# Altium integrated library Actel IGLOO.IntLib: 429 symbols (part 21 of 45)
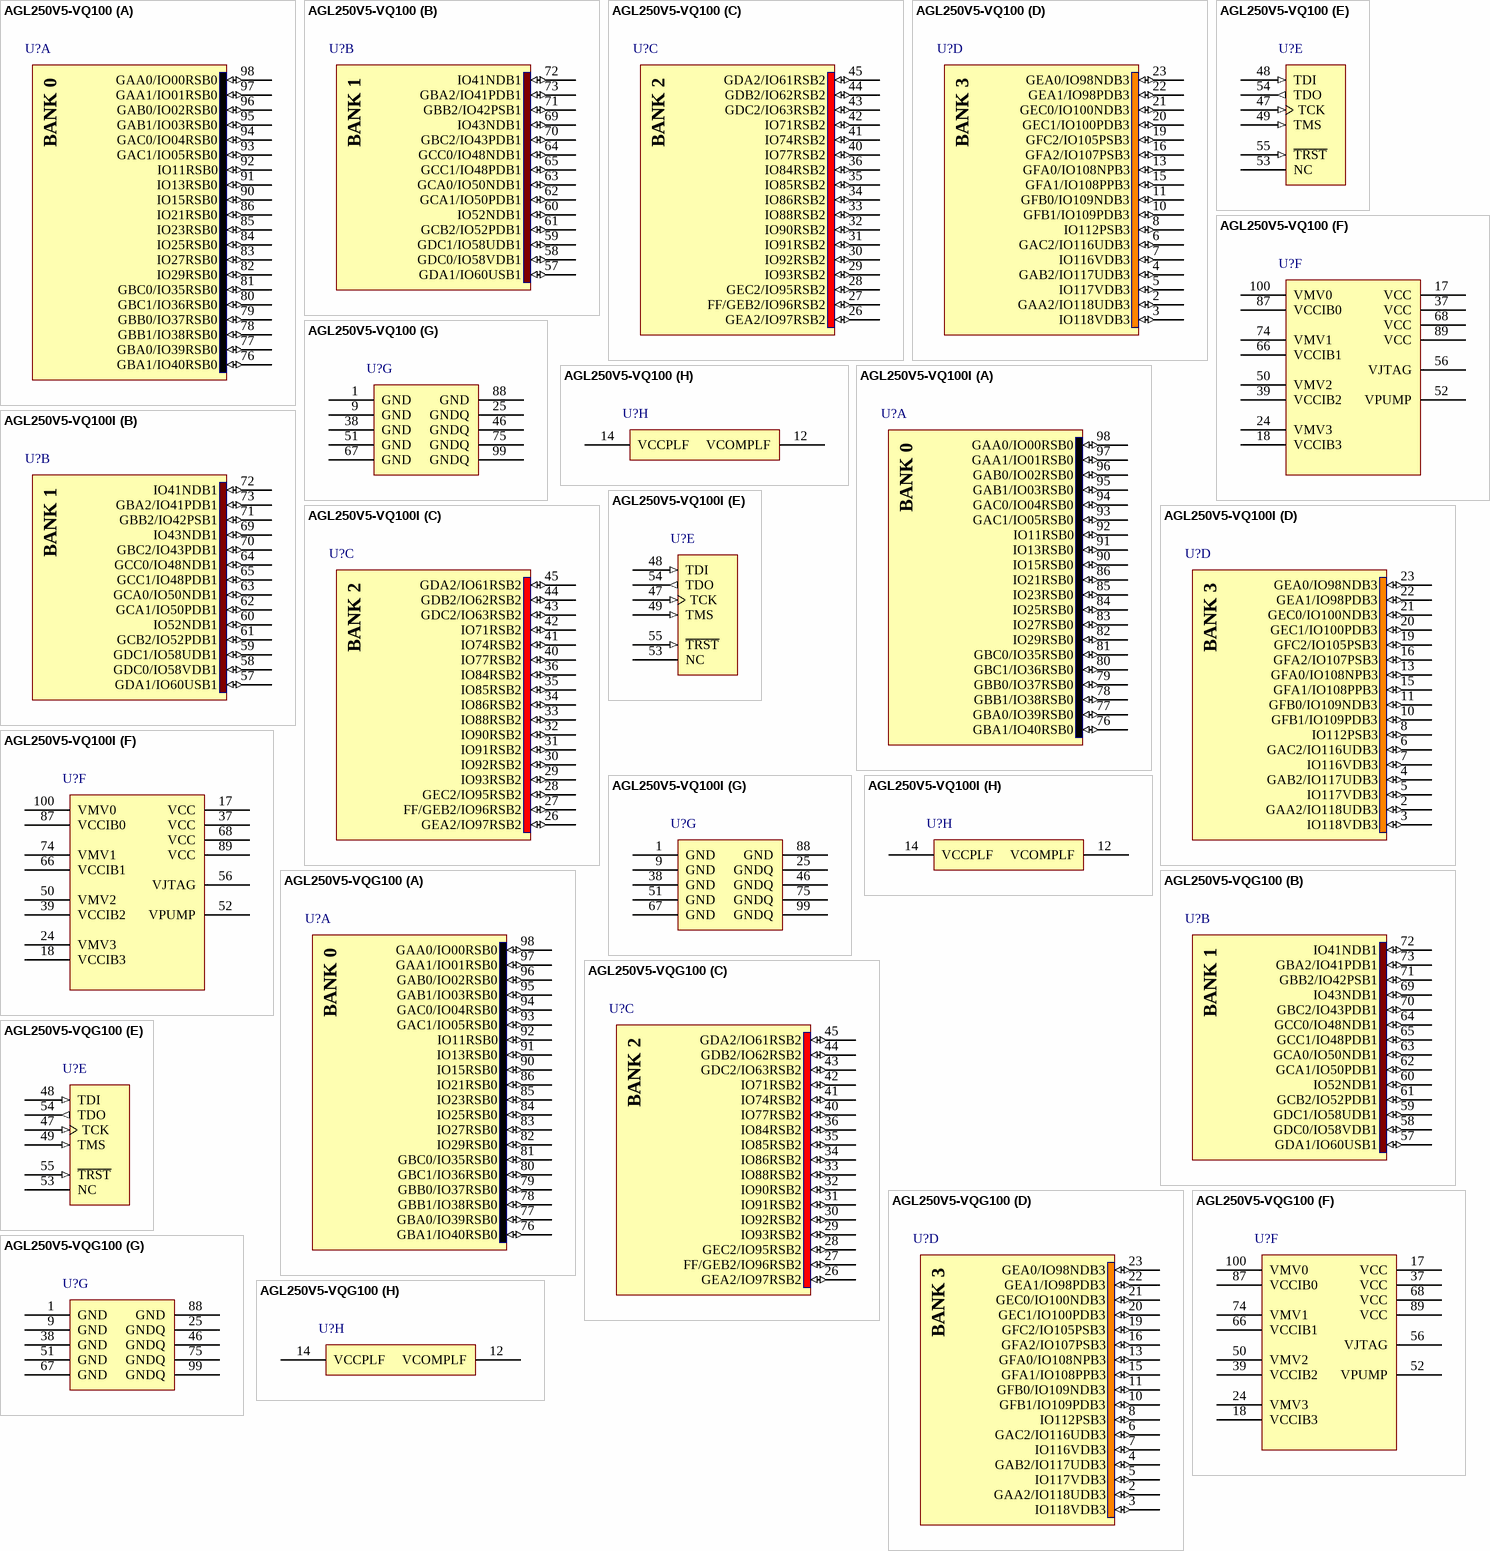
[diagram p267: symbols AGL250V5-VQ100 to AGL250V5-VQG100]

## AGL250V5-VQ100
designator U?
IGLOO Low-Power Flash 1.5V FPGA with Flash*Freeze, 68 User IOs, 250K System Gates, 36Kbits RAM, 1Kbit Flash ROM, 1 PLL, 100-Pin TQFP, Commercial Grade; DatasheetVersion: v2.0, Nov-2009; PackageVersion: rev40, Jun-2011; PackageReference: VQ100; PackageDescription: 100-Pin Plastic Quad Flat Pack (VQ100); Code_JEDEC: MS-026-AED; ComponentLink1Description: Manufacturer URL; ComponentLink1URL: http://www.actel.com/; ComponentLink2Description: IGLOO Datasheet; ComponentLink2URL: http://www.actel.com/documents/IGLOO_DS.pdf; ComponentLink3Description: Package Mechanical Drawings; ComponentLink3URL: http://www.actel.com/documents/PckgMechDrwngs.pdf; ComponentLink4Description: IGLOO Documents; ComponentLink4URL: http://www.actel.com/products/igloo/docs.aspx
footprint VQ100_N (Thin QFP, 100-Leads, Body 14x14mm, Pitch 0.5mm, IPC Medium Density)
footprint VQ100_L (Thin QFP, 100-Leads, Body 14x14mm, Pitch 0.5mm, IPC High Density)
footprint VQ100_M (Thin QFP, 100-Leads, Body 14x14mm, Pitch 0.5mm, IPC Low Density)
part A pins: 76 GBA1/IO40RSB0 (io), 77 GBA0/IO39RSB0 (io), 78 GBB1/IO38RSB0 (io), 79 GBB0/IO37RSB0 (io), 80 GBC1/IO36RSB0 (io), 81 GBC0/IO35RSB0 (io), 82 IO29RSB0 (io), 83 IO27RSB0 (io), 84 IO25RSB0 (io), 85 IO23RSB0 (io), 86 IO21RSB0 (io), 90 IO15RSB0 (io), 91 IO13RSB0 (io), 92 IO11RSB0 (io), 93 GAC1/IO05RSB0 (io), 94 GAC0/IO04RSB0 (io), 95 GAB1/IO03RSB0 (io), 96 GAB0/IO02RSB0 (io), 97 GAA1/IO01RSB0 (io), 98 GAA0/IO00RSB0 (io)
part B pins: 57 GDA1/IO60USB1 (io), 58 GDC0/IO58VDB1 (io), 59 GDC1/IO58UDB1 (io), 60 IO52NDB1 (io), 61 GCB2/IO52PDB1 (io), 62 GCA1/IO50PDB1 (io), 63 GCA0/IO50NDB1 (io), 64 GCC0/IO48NDB1 (io), 65 GCC1/IO48PDB1 (io), 69 IO43NDB1 (io), 70 GBC2/IO43PDB1 (io), 71 GBB2/IO42PSB1 (io), 72 IO41NDB1 (io), 73 GBA2/IO41PDB1 (io)
part C pins: 26 GEA2/IO97RSB2 (io), 27 FF/GEB2/IO96RSB2 (io), 28 GEC2/IO95RSB2 (io), 29 IO93RSB2 (io), 30 IO92RSB2 (io), 31 IO91RSB2 (io), 32 IO90RSB2 (io), 33 IO88RSB2 (io), 34 IO86RSB2 (io), 35 IO85RSB2 (io), 36 IO84RSB2 (io), 40 IO77RSB2 (io), 41 IO74RSB2 (io), 42 IO71RSB2 (io), 43 GDC2/IO63RSB2 (io), 44 GDB2/IO62RSB2 (io), 45 GDA2/IO61RSB2 (io)
part D pins: 2 GAA2/IO118UDB3 (io), 3 IO118VDB3 (io), 4 GAB2/IO117UDB3 (io), 5 IO117VDB3 (io), 6 GAC2/IO116UDB3 (io), 7 IO116VDB3 (io), 8 IO112PSB3 (io), 10 GFB1/IO109PDB3 (io), 11 GFB0/IO109NDB3 (io), 13 GFA0/IO108NPB3 (io), 15 GFA1/IO108PPB3 (io), 16 GFA2/IO107PSB3 (io), 19 GFC2/IO105PSB3 (io), 20 GEC1/IO100PDB3 (io), 21 GEC0/IO100NDB3 (io), 22 GEA1/IO98PDB3 (io), 23 GEA0/IO98NDB3 (io)
part E pins: 47 TCK (in), 48 TDI (in), 49 TMS (in), 53 NC, 54 TDO (out), 55 ~{TRST} (in)
part F pins: 17 VCC (power), 18 VCCIB3 (power), 24 VMV3 (power), 37 VCC (power), 39 VCCIB2 (power), 50 VMV2 (power), 52 VPUMP (power), 56 VJTAG (power), 66 VCCIB1 (power), 68 VCC (power), 74 VMV1 (power), 87 VCCIB0 (power), 89 VCC (power), 100 VMV0 (power)
part G pins: 1 GND (power), 9 GND (power), 25 GNDQ (power), 38 GND (power), 46 GNDQ (power), 51 GND (power), 67 GND (power), 75 GNDQ (power), 88 GND (power), 99 GNDQ (power)
part H pins: 12 VCOMPLF (power), 14 VCCPLF (power)
part A text: BANK 0
part B text: BANK 1
part C text: BANK 2
part D text: BANK 3

## AGL250V5-VQ100I
designator U?
IGLOO Low-Power Flash 1.5V FPGA with Flash*Freeze, 68 User IOs, 250K System Gates, 36Kbits RAM, 1Kbit Flash ROM, 1 PLL, 100-Pin TQFP, Industrial Grade; DatasheetVersion: v2.0, Nov-2009; PackageVersion: rev40, Jun-2011; PackageReference: VQ100; PackageDescription: 100-Pin Plastic Quad Flat Pack (VQ100); Code_JEDEC: MS-026-AED; ComponentLink1Description: Manufacturer URL; ComponentLink1URL: http://www.actel.com/; ComponentLink2Description: IGLOO Datasheet; ComponentLink2URL: http://www.actel.com/documents/IGLOO_DS.pdf; ComponentLink3Description: Package Mechanical Drawings; ComponentLink3URL: http://www.actel.com/documents/PckgMechDrwngs.pdf; ComponentLink4Description: IGLOO Documents; ComponentLink4URL: http://www.actel.com/products/igloo/docs.aspx
footprint VQ100_N (Thin QFP, 100-Leads, Body 14x14mm, Pitch 0.5mm, IPC Medium Density)
footprint VQ100_L (Thin QFP, 100-Leads, Body 14x14mm, Pitch 0.5mm, IPC High Density)
footprint VQ100_M (Thin QFP, 100-Leads, Body 14x14mm, Pitch 0.5mm, IPC Low Density)
part A pins: 76 GBA1/IO40RSB0 (io), 77 GBA0/IO39RSB0 (io), 78 GBB1/IO38RSB0 (io), 79 GBB0/IO37RSB0 (io), 80 GBC1/IO36RSB0 (io), 81 GBC0/IO35RSB0 (io), 82 IO29RSB0 (io), 83 IO27RSB0 (io), 84 IO25RSB0 (io), 85 IO23RSB0 (io), 86 IO21RSB0 (io), 90 IO15RSB0 (io), 91 IO13RSB0 (io), 92 IO11RSB0 (io), 93 GAC1/IO05RSB0 (io), 94 GAC0/IO04RSB0 (io), 95 GAB1/IO03RSB0 (io), 96 GAB0/IO02RSB0 (io), 97 GAA1/IO01RSB0 (io), 98 GAA0/IO00RSB0 (io)
part B pins: 57 GDA1/IO60USB1 (io), 58 GDC0/IO58VDB1 (io), 59 GDC1/IO58UDB1 (io), 60 IO52NDB1 (io), 61 GCB2/IO52PDB1 (io), 62 GCA1/IO50PDB1 (io), 63 GCA0/IO50NDB1 (io), 64 GCC0/IO48NDB1 (io), 65 GCC1/IO48PDB1 (io), 69 IO43NDB1 (io), 70 GBC2/IO43PDB1 (io), 71 GBB2/IO42PSB1 (io), 72 IO41NDB1 (io), 73 GBA2/IO41PDB1 (io)
part C pins: 26 GEA2/IO97RSB2 (io), 27 FF/GEB2/IO96RSB2 (io), 28 GEC2/IO95RSB2 (io), 29 IO93RSB2 (io), 30 IO92RSB2 (io), 31 IO91RSB2 (io), 32 IO90RSB2 (io), 33 IO88RSB2 (io), 34 IO86RSB2 (io), 35 IO85RSB2 (io), 36 IO84RSB2 (io), 40 IO77RSB2 (io), 41 IO74RSB2 (io), 42 IO71RSB2 (io), 43 GDC2/IO63RSB2 (io), 44 GDB2/IO62RSB2 (io), 45 GDA2/IO61RSB2 (io)
part D pins: 2 GAA2/IO118UDB3 (io), 3 IO118VDB3 (io), 4 GAB2/IO117UDB3 (io), 5 IO117VDB3 (io), 6 GAC2/IO116UDB3 (io), 7 IO116VDB3 (io), 8 IO112PSB3 (io), 10 GFB1/IO109PDB3 (io), 11 GFB0/IO109NDB3 (io), 13 GFA0/IO108NPB3 (io), 15 GFA1/IO108PPB3 (io), 16 GFA2/IO107PSB3 (io), 19 GFC2/IO105PSB3 (io), 20 GEC1/IO100PDB3 (io), 21 GEC0/IO100NDB3 (io), 22 GEA1/IO98PDB3 (io), 23 GEA0/IO98NDB3 (io)
part E pins: 47 TCK (in), 48 TDI (in), 49 TMS (in), 53 NC, 54 TDO (out), 55 ~{TRST} (in)
part F pins: 17 VCC (power), 18 VCCIB3 (power), 24 VMV3 (power), 37 VCC (power), 39 VCCIB2 (power), 50 VMV2 (power), 52 VPUMP (power), 56 VJTAG (power), 66 VCCIB1 (power), 68 VCC (power), 74 VMV1 (power), 87 VCCIB0 (power), 89 VCC (power), 100 VMV0 (power)
part G pins: 1 GND (power), 9 GND (power), 25 GNDQ (power), 38 GND (power), 46 GNDQ (power), 51 GND (power), 67 GND (power), 75 GNDQ (power), 88 GND (power), 99 GNDQ (power)
part H pins: 12 VCOMPLF (power), 14 VCCPLF (power)
part A text: BANK 0
part B text: BANK 1
part C text: BANK 2
part D text: BANK 3

## AGL250V5-VQG100
designator U?
IGLOO Low-Power Flash 1.5V FPGA with Flash*Freeze, 68 User IOs, 250K System Gates, 36Kbits RAM, 1Kbit Flash ROM, 1 PLL, 100-Pin TQFP, Commercial Grade, Pb-Free; DatasheetVersion: v2.0, Nov-2009; PackageVersion: rev40, Jun-2011; PackageReference: VQ100; PackageDescription: 100-Pin Plastic Quad Flat Pack (VQ100); Code_JEDEC: MS-026-AED; ComponentLink1Description: Manufacturer URL; ComponentLink1URL: http://www.actel.com/; ComponentLink2Description: IGLOO Datasheet; ComponentLink2URL: http://www.actel.com/documents/IGLOO_DS.pdf; ComponentLink3Description: Package Mechanical Drawings; ComponentLink3URL: http://www.actel.com/documents/PckgMechDrwngs.pdf; ComponentLink4Description: IGLOO Documents; ComponentLink4URL: http://www.actel.com/products/igloo/docs.aspx
footprint VQ100_N (Thin QFP, 100-Leads, Body 14x14mm, Pitch 0.5mm, IPC Medium Density)
footprint VQ100_L (Thin QFP, 100-Leads, Body 14x14mm, Pitch 0.5mm, IPC High Density)
footprint VQ100_M (Thin QFP, 100-Leads, Body 14x14mm, Pitch 0.5mm, IPC Low Density)
part A pins: 76 GBA1/IO40RSB0 (io), 77 GBA0/IO39RSB0 (io), 78 GBB1/IO38RSB0 (io), 79 GBB0/IO37RSB0 (io), 80 GBC1/IO36RSB0 (io), 81 GBC0/IO35RSB0 (io), 82 IO29RSB0 (io), 83 IO27RSB0 (io), 84 IO25RSB0 (io), 85 IO23RSB0 (io), 86 IO21RSB0 (io), 90 IO15RSB0 (io), 91 IO13RSB0 (io), 92 IO11RSB0 (io), 93 GAC1/IO05RSB0 (io), 94 GAC0/IO04RSB0 (io), 95 GAB1/IO03RSB0 (io), 96 GAB0/IO02RSB0 (io), 97 GAA1/IO01RSB0 (io), 98 GAA0/IO00RSB0 (io)
part B pins: 57 GDA1/IO60USB1 (io), 58 GDC0/IO58VDB1 (io), 59 GDC1/IO58UDB1 (io), 60 IO52NDB1 (io), 61 GCB2/IO52PDB1 (io), 62 GCA1/IO50PDB1 (io), 63 GCA0/IO50NDB1 (io), 64 GCC0/IO48NDB1 (io), 65 GCC1/IO48PDB1 (io), 69 IO43NDB1 (io), 70 GBC2/IO43PDB1 (io), 71 GBB2/IO42PSB1 (io), 72 IO41NDB1 (io), 73 GBA2/IO41PDB1 (io)
part C pins: 26 GEA2/IO97RSB2 (io), 27 FF/GEB2/IO96RSB2 (io), 28 GEC2/IO95RSB2 (io), 29 IO93RSB2 (io), 30 IO92RSB2 (io), 31 IO91RSB2 (io), 32 IO90RSB2 (io), 33 IO88RSB2 (io), 34 IO86RSB2 (io), 35 IO85RSB2 (io), 36 IO84RSB2 (io), 40 IO77RSB2 (io), 41 IO74RSB2 (io), 42 IO71RSB2 (io), 43 GDC2/IO63RSB2 (io), 44 GDB2/IO62RSB2 (io), 45 GDA2/IO61RSB2 (io)
part D pins: 2 GAA2/IO118UDB3 (io), 3 IO118VDB3 (io), 4 GAB2/IO117UDB3 (io), 5 IO117VDB3 (io), 6 GAC2/IO116UDB3 (io), 7 IO116VDB3 (io), 8 IO112PSB3 (io), 10 GFB1/IO109PDB3 (io), 11 GFB0/IO109NDB3 (io), 13 GFA0/IO108NPB3 (io), 15 GFA1/IO108PPB3 (io), 16 GFA2/IO107PSB3 (io), 19 GFC2/IO105PSB3 (io), 20 GEC1/IO100PDB3 (io), 21 GEC0/IO100NDB3 (io), 22 GEA1/IO98PDB3 (io), 23 GEA0/IO98NDB3 (io)
part E pins: 47 TCK (in), 48 TDI (in), 49 TMS (in), 53 NC, 54 TDO (out), 55 ~{TRST} (in)
part F pins: 17 VCC (power), 18 VCCIB3 (power), 24 VMV3 (power), 37 VCC (power), 39 VCCIB2 (power), 50 VMV2 (power), 52 VPUMP (power), 56 VJTAG (power), 66 VCCIB1 (power), 68 VCC (power), 74 VMV1 (power), 87 VCCIB0 (power), 89 VCC (power), 100 VMV0 (power)
part G pins: 1 GND (power), 9 GND (power), 25 GNDQ (power), 38 GND (power), 46 GNDQ (power), 51 GND (power), 67 GND (power), 75 GNDQ (power), 88 GND (power), 99 GNDQ (power)
part H pins: 12 VCOMPLF (power), 14 VCCPLF (power)
part A text: BANK 0
part B text: BANK 1
part C text: BANK 2
part D text: BANK 3

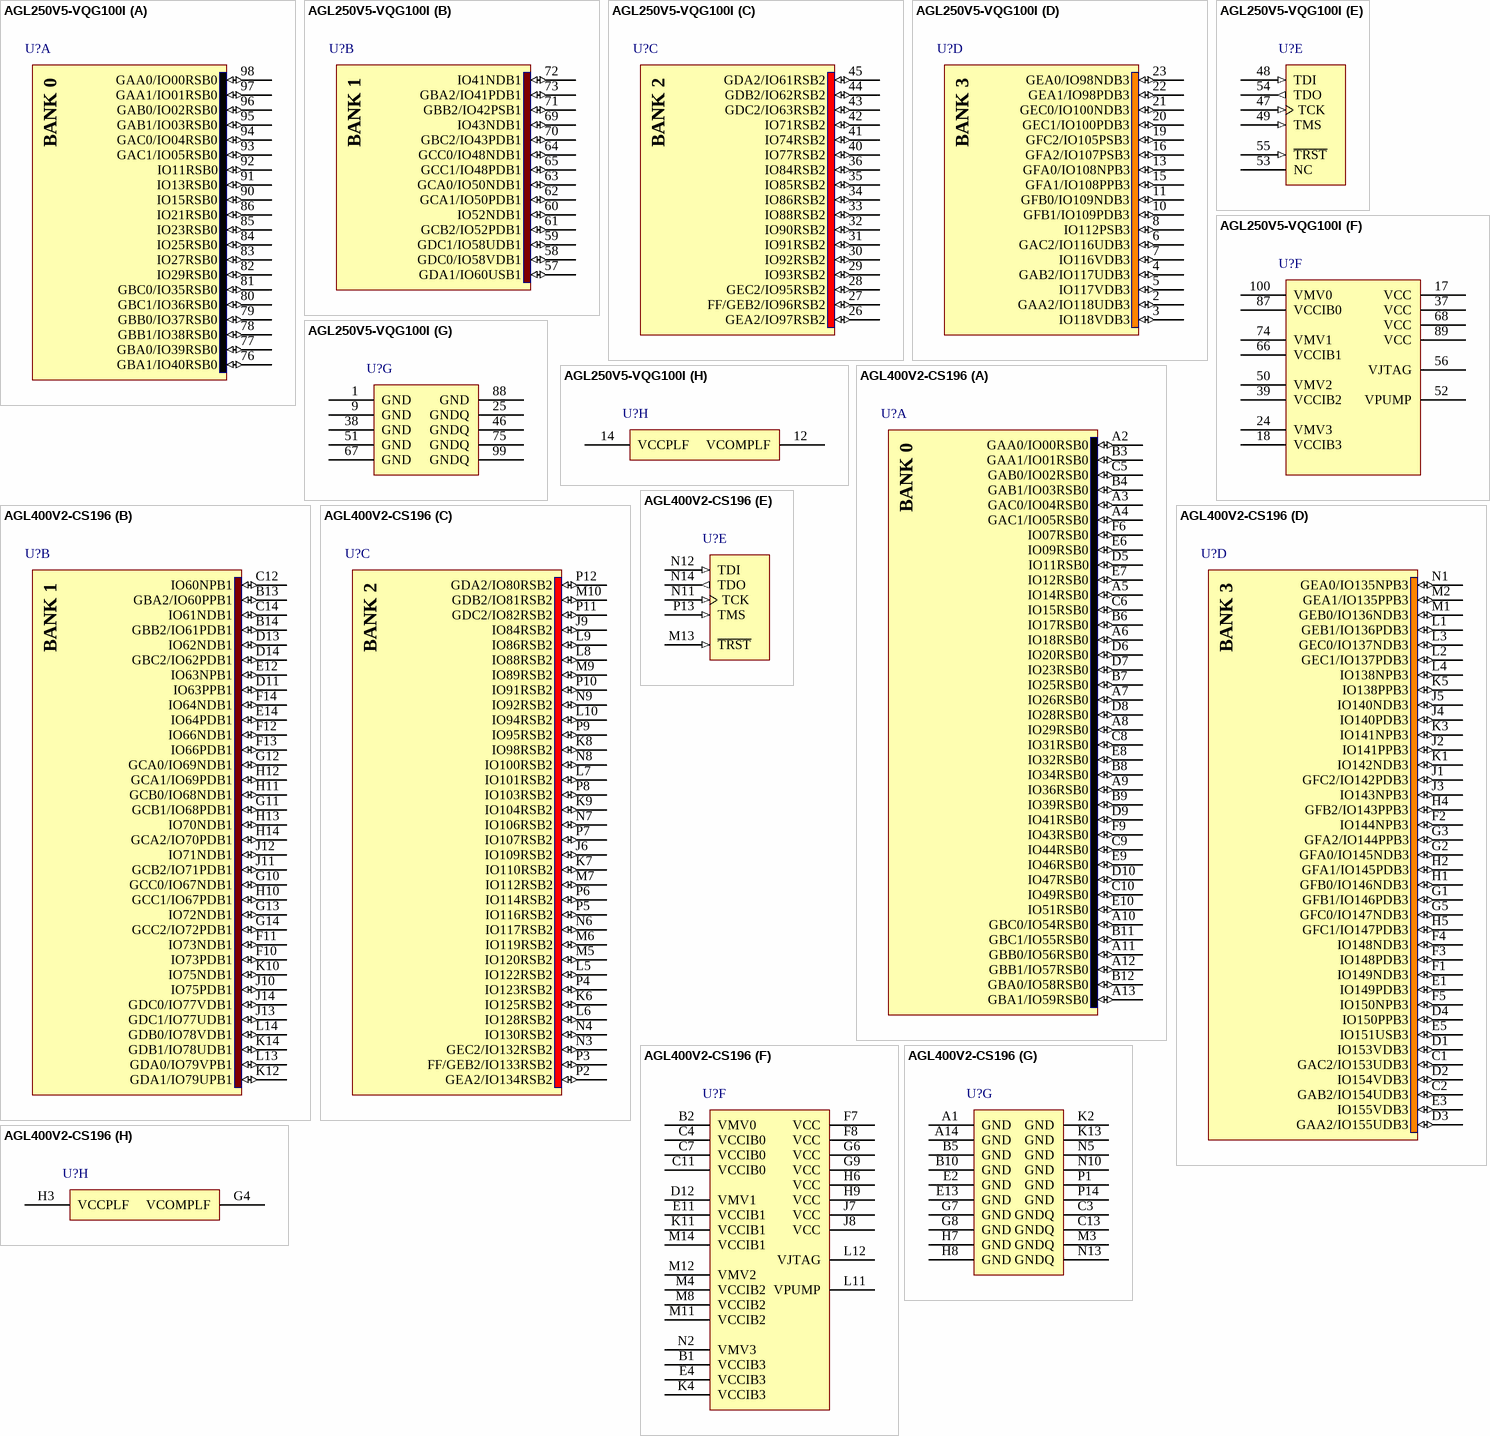
[diagram p64: symbols AGL250V5-VQG100I to AGL400V2-CS196]

## AGL250V5-VQG100I
designator U?
IGLOO Low-Power Flash 1.5V FPGA with Flash*Freeze, 68 User IOs, 250K System Gates, 36Kbits RAM, 1Kbit Flash ROM, 1 PLL, 100-Pin TQFP, Industrial Grade, Pb-Free; DatasheetVersion: v2.0, Nov-2009; PackageVersion: rev40, Jun-2011; PackageReference: VQ100; PackageDescription: 100-Pin Plastic Quad Flat Pack (VQ100); Code_JEDEC: MS-026-AED; ComponentLink1Description: Manufacturer URL; ComponentLink1URL: http://www.actel.com/; ComponentLink2Description: IGLOO Datasheet; ComponentLink2URL: http://www.actel.com/documents/IGLOO_DS.pdf; ComponentLink3Description: Package Mechanical Drawings; ComponentLink3URL: http://www.actel.com/documents/PckgMechDrwngs.pdf; ComponentLink4Description: IGLOO Documents; ComponentLink4URL: http://www.actel.com/products/igloo/docs.aspx
footprint VQ100_N (Thin QFP, 100-Leads, Body 14x14mm, Pitch 0.5mm, IPC Medium Density)
footprint VQ100_L (Thin QFP, 100-Leads, Body 14x14mm, Pitch 0.5mm, IPC High Density)
footprint VQ100_M (Thin QFP, 100-Leads, Body 14x14mm, Pitch 0.5mm, IPC Low Density)
part A pins: 76 GBA1/IO40RSB0 (io), 77 GBA0/IO39RSB0 (io), 78 GBB1/IO38RSB0 (io), 79 GBB0/IO37RSB0 (io), 80 GBC1/IO36RSB0 (io), 81 GBC0/IO35RSB0 (io), 82 IO29RSB0 (io), 83 IO27RSB0 (io), 84 IO25RSB0 (io), 85 IO23RSB0 (io), 86 IO21RSB0 (io), 90 IO15RSB0 (io), 91 IO13RSB0 (io), 92 IO11RSB0 (io), 93 GAC1/IO05RSB0 (io), 94 GAC0/IO04RSB0 (io), 95 GAB1/IO03RSB0 (io), 96 GAB0/IO02RSB0 (io), 97 GAA1/IO01RSB0 (io), 98 GAA0/IO00RSB0 (io)
part B pins: 57 GDA1/IO60USB1 (io), 58 GDC0/IO58VDB1 (io), 59 GDC1/IO58UDB1 (io), 60 IO52NDB1 (io), 61 GCB2/IO52PDB1 (io), 62 GCA1/IO50PDB1 (io), 63 GCA0/IO50NDB1 (io), 64 GCC0/IO48NDB1 (io), 65 GCC1/IO48PDB1 (io), 69 IO43NDB1 (io), 70 GBC2/IO43PDB1 (io), 71 GBB2/IO42PSB1 (io), 72 IO41NDB1 (io), 73 GBA2/IO41PDB1 (io)
part C pins: 26 GEA2/IO97RSB2 (io), 27 FF/GEB2/IO96RSB2 (io), 28 GEC2/IO95RSB2 (io), 29 IO93RSB2 (io), 30 IO92RSB2 (io), 31 IO91RSB2 (io), 32 IO90RSB2 (io), 33 IO88RSB2 (io), 34 IO86RSB2 (io), 35 IO85RSB2 (io), 36 IO84RSB2 (io), 40 IO77RSB2 (io), 41 IO74RSB2 (io), 42 IO71RSB2 (io), 43 GDC2/IO63RSB2 (io), 44 GDB2/IO62RSB2 (io), 45 GDA2/IO61RSB2 (io)
part D pins: 2 GAA2/IO118UDB3 (io), 3 IO118VDB3 (io), 4 GAB2/IO117UDB3 (io), 5 IO117VDB3 (io), 6 GAC2/IO116UDB3 (io), 7 IO116VDB3 (io), 8 IO112PSB3 (io), 10 GFB1/IO109PDB3 (io), 11 GFB0/IO109NDB3 (io), 13 GFA0/IO108NPB3 (io), 15 GFA1/IO108PPB3 (io), 16 GFA2/IO107PSB3 (io), 19 GFC2/IO105PSB3 (io), 20 GEC1/IO100PDB3 (io), 21 GEC0/IO100NDB3 (io), 22 GEA1/IO98PDB3 (io), 23 GEA0/IO98NDB3 (io)
part E pins: 47 TCK (in), 48 TDI (in), 49 TMS (in), 53 NC, 54 TDO (out), 55 ~{TRST} (in)
part F pins: 17 VCC (power), 18 VCCIB3 (power), 24 VMV3 (power), 37 VCC (power), 39 VCCIB2 (power), 50 VMV2 (power), 52 VPUMP (power), 56 VJTAG (power), 66 VCCIB1 (power), 68 VCC (power), 74 VMV1 (power), 87 VCCIB0 (power), 89 VCC (power), 100 VMV0 (power)
part G pins: 1 GND (power), 9 GND (power), 25 GNDQ (power), 38 GND (power), 46 GNDQ (power), 51 GND (power), 67 GND (power), 75 GNDQ (power), 88 GND (power), 99 GNDQ (power)
part H pins: 12 VCOMPLF (power), 14 VCCPLF (power)
part A text: BANK 0
part B text: BANK 1
part C text: BANK 2
part D text: BANK 3

## AGL400V2-CS196
designator U?
IGLOO Low-Power Flash 1.2/1.5V FPGA with Flash*Freeze, 143 User IOs, 400K System Gates, 54Kbits RAM, 1Kbit Flash ROM, 1 PLL, 196-Pin CSP, Commercial Grade; DatasheetVersion: v2.0, Nov-2009; PackageVersion: rev40, Jun-2011; PackageReference: CS196; PackageDescription: 196-Ball Chip Scale Ball Grid Array 0.5 mm Pitch (CS196); Code_JEDEC: MO-195-BE; ComponentLink1Description: Manufacturer URL; ComponentLink1URL: http://www.actel.com/; ComponentLink2Description: IGLOO Datasheet; ComponentLink2URL: http://www.actel.com/documents/IGLOO_DS.pdf; ComponentLink3Description: Package Mechanical Drawings; ComponentLink3URL: http://www.actel.com/documents/PckgMechDrwngs.pdf; ComponentLink4Description: IGLOO Documents; ComponentLink4URL: http://www.actel.com/products/igloo/docs.aspx
footprint CS196 (BGA, 196-Leads, Body 8x8mm, Pitch 0.5mm)
part A pins: A2 GAA0/IO00RSB0 (io), A3 GAC0/IO04RSB0 (io), A4 GAC1/IO05RSB0 (io), A5 IO14RSB0 (io), A6 IO18RSB0 (io), A7 IO26RSB0 (io), A8 IO29RSB0 (io), A9 IO36RSB0 (io), A10 GBC0/IO54RSB0 (io), A11 GBB0/IO56RSB0 (io), A12 GBB1/IO57RSB0 (io), A13 GBA1/IO59RSB0 (io), B3 GAA1/IO01RSB0 (io), B4 GAB1/IO03RSB0 (io), B6 IO17RSB0 (io), B7 IO25RSB0 (io), B8 IO34RSB0 (io), B9 IO39RSB0 (io), B11 GBC1/IO55RSB0 (io), B12 GBA0/IO58RSB0 (io), C5 GAB0/IO02RSB0 (io), C6 IO15RSB0 (io), C8 IO31RSB0 (io), C9 IO44RSB0 (io), C10 IO49RSB0 (io), D5 IO11RSB0 (io), D6 IO20RSB0 (io), D7 IO23RSB0 (io), D8 IO28RSB0 (io), D9 IO41RSB0 (io), D10 IO47RSB0 (io), E6 IO09RSB0 (io), E7 IO12RSB0 (io), E8 IO32RSB0 (io), E9 IO46RSB0 (io), E10 IO51RSB0 (io), F6 IO07RSB0 (io), F9 IO43RSB0 (io)
part B pins: B13 GBA2/IO60PPB1 (io), B14 GBB2/IO61PDB1 (io), C12 IO60NPB1 (io), C14 IO61NDB1 (io), D11 IO63PPB1 (io), D13 IO62NDB1 (io), D14 GBC2/IO62PDB1 (io), E12 IO63NPB1 (io), E14 IO64PDB1 (io), F10 IO73PDB1 (io), F11 IO73NDB1 (io), F12 IO66NDB1 (io), F13 IO66PDB1 (io), F14 IO64NDB1 (io), G10 GCC0/IO67NDB1 (io), G11 GCB1/IO68PDB1 (io), G12 GCA0/IO69NDB1 (io), G13 IO72NDB1 (io), G14 GCC2/IO72PDB1 (io), H10 GCC1/IO67PDB1 (io), H11 GCB0/IO68NDB1 (io), H12 GCA1/IO69PDB1 (io), H13 IO70NDB1 (io), H14 GCA2/IO70PDB1 (io), J10 IO75PDB1 (io), J11 GCB2/IO71PDB1 (io), J12 IO71NDB1 (io), J13 GDC1/IO77UDB1 (io), J14 GDC0/IO77VDB1 (io), K10 IO75NDB1 (io), K12 GDA1/IO79UPB1 (io), K14 GDB1/IO78UDB1 (io), L13 GDA0/IO79VPB1 (io), L14 GDB0/IO78VDB1 (io)
part C pins: J6 IO109RSB2 (io), J9 IO84RSB2 (io), K6 IO125RSB2 (io), K7 IO110RSB2 (io), K8 IO98RSB2 (io), K9 IO104RSB2 (io), L5 IO122RSB2 (io), L6 IO128RSB2 (io), L7 IO101RSB2 (io), L8 IO88RSB2 (io), L9 IO86RSB2 (io), L10 IO94RSB2 (io), M5 IO120RSB2 (io), M6 IO119RSB2 (io), M7 IO112RSB2 (io), M9 IO89RSB2 (io), M10 GDB2/IO81RSB2 (io), N3 GEC2/IO132RSB2 (io), N4 IO130RSB2 (io), N6 IO117RSB2 (io), N7 IO106RSB2 (io), N8 IO100RSB2 (io), N9 IO92RSB2 (io), P2 GEA2/IO134RSB2 (io), P3 FF/GEB2/IO133RSB2 (io), P4 IO123RSB2 (io), P5 IO116RSB2 (io), P6 IO114RSB2 (io), P7 IO107RSB2 (io), P8 IO103RSB2 (io), P9 IO95RSB2 (io), P10 IO91RSB2 (io), P11 GDC2/IO82RSB2 (io), P12 GDA2/IO80RSB2 (io)
part D pins: C1 GAC2/IO153UDB3 (io), C2 GAB2/IO154UDB3 (io), D1 IO153VDB3 (io), D2 IO154VDB3 (io), D3 GAA2/IO155UDB3 (io), D4 IO150PPB3 (io), E1 IO149PDB3 (io), E3 IO155VDB3 (io), E5 IO151USB3 (io), F1 IO149NDB3 (io), F2 IO144NPB3 (io), F3 IO148PDB3 (io), F4 IO148NDB3 (io), F5 IO150NPB3 (io), G1 GFB1/IO146PDB3 (io), G2 GFA0/IO145NDB3 (io), G3 GFA2/IO144PPB3 (io), G5 GFC0/IO147NDB3 (io), H1 GFB0/IO146NDB3 (io), H2 GFA1/IO145PDB3 (io), H4 GFB2/IO143PPB3 (io), H5 GFC1/IO147PDB3 (io), J1 GFC2/IO142PDB3 (io), J2 IO141PPB3 (io), J3 IO143NPB3 (io), J4 IO140PDB3 (io), J5 IO140NDB3 (io), K1 IO142NDB3 (io), K3 IO141NPB3 (io), K5 IO138PPB3 (io), L1 GEB1/IO136PDB3 (io), L2 GEC1/IO137PDB3 (io), L3 GEC0/IO137NDB3 (io), L4 IO138NPB3 (io), M1 GEB0/IO136NDB3 (io), M2 GEA1/IO135PPB3 (io), N1 GEA0/IO135NPB3 (io)
part E pins: M13 ~{TRST} (in), N11 TCK (in), N12 TDI (in), N14 TDO (out), P13 TMS (in)
part F pins: B1 VCCIB3 (power), B2 VMV0 (power), C4 VCCIB0 (power), C7 VCCIB0 (power), C11 VCCIB0 (power), D12 VMV1 (power), E4 VCCIB3 (power), E11 VCCIB1 (power), F7 VCC (power), F8 VCC (power), G6 VCC (power), G9 VCC (power), H6 VCC (power), H9 VCC (power), J7 VCC (power), J8 VCC (power), K4 VCCIB3 (power), K11 VCCIB1 (power), L11 VPUMP (power), L12 VJTAG (power), M4 VCCIB2 (power), M8 VCCIB2 (power), M11 VCCIB2 (power), M12 VMV2 (power), M14 VCCIB1 (power), N2 VMV3 (power)
part G pins: A1 GND (power), A14 GND (power), B5 GND (power), B10 GND (power), C3 GNDQ (power), C13 GNDQ (power), E2 GND (power), E13 GND (power), G7 GND (power), G8 GND (power), H7 GND (power), H8 GND (power), K2 GND (power), K13 GND (power), M3 GNDQ (power), N5 GND (power), N10 GND (power), N13 GNDQ (power), P1 GND (power), P14 GND (power)
part H pins: G4 VCOMPLF (power), H3 VCCPLF (power)
part A text: BANK 0
part B text: BANK 1
part C text: BANK 2
part D text: BANK 3

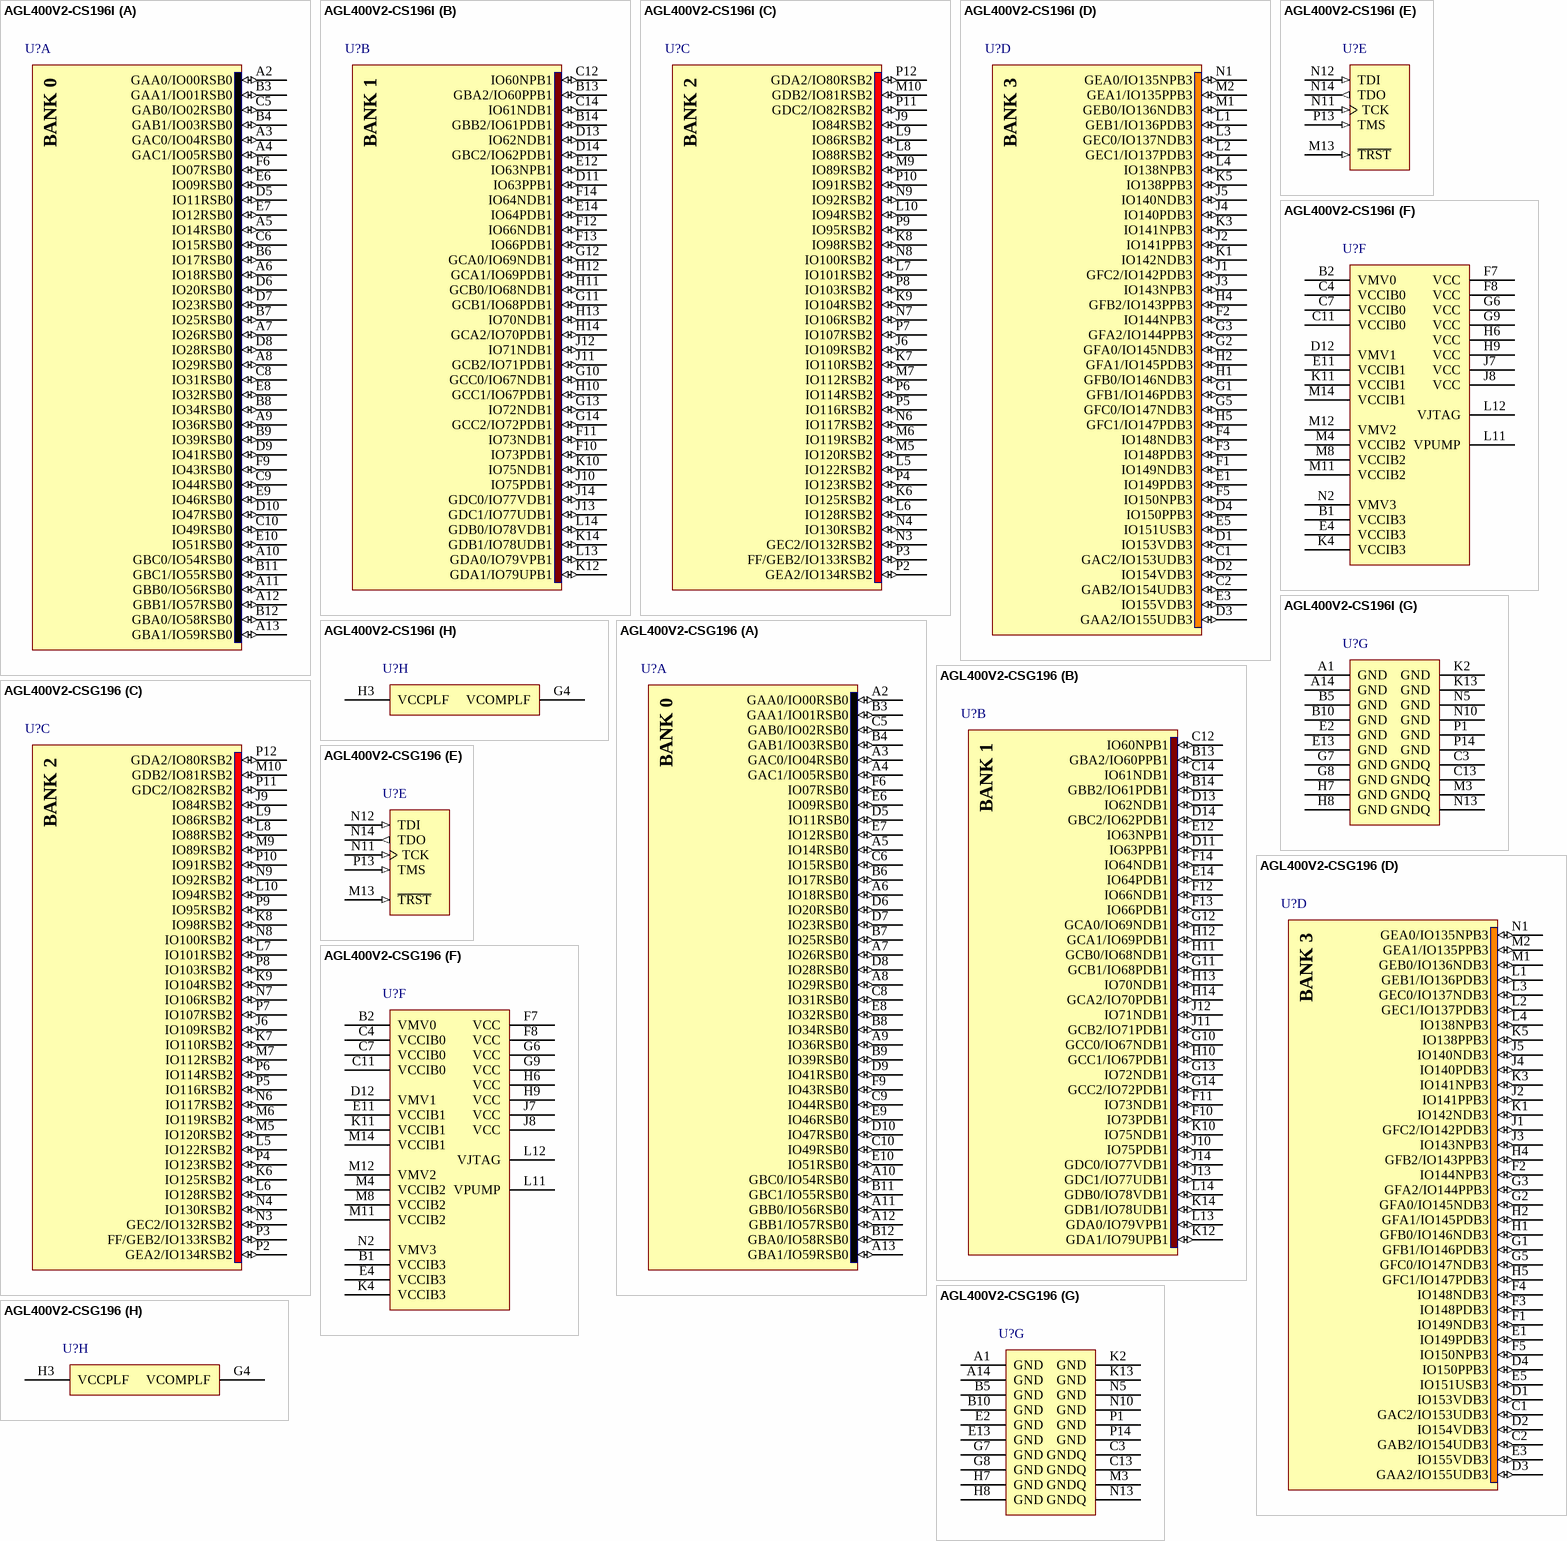
[diagram p65: symbols AGL400V2-CS196I to AGL400V2-CSG196]

## AGL400V2-CS196I
designator U?
IGLOO Low-Power Flash 1.2/1.5V FPGA with Flash*Freeze, 143 User IOs, 400K System Gates, 54Kbits RAM, 1Kbit Flash ROM, 1 PLL, 196-Pin CSP, Industrial Grade; DatasheetVersion: v2.0, Nov-2009; PackageVersion: rev40, Jun-2011; PackageReference: CS196; PackageDescription: 196-Ball Chip Scale Ball Grid Array 0.5 mm Pitch (CS196); Code_JEDEC: MO-195-BE; ComponentLink1Description: Manufacturer URL; ComponentLink1URL: http://www.actel.com/; ComponentLink2Description: IGLOO Datasheet; ComponentLink2URL: http://www.actel.com/documents/IGLOO_DS.pdf; ComponentLink3Description: Package Mechanical Drawings; ComponentLink3URL: http://www.actel.com/documents/PckgMechDrwngs.pdf; ComponentLink4Description: IGLOO Documents; ComponentLink4URL: http://www.actel.com/products/igloo/docs.aspx
footprint CS196 (BGA, 196-Leads, Body 8x8mm, Pitch 0.5mm)
part A pins: A2 GAA0/IO00RSB0 (io), A3 GAC0/IO04RSB0 (io), A4 GAC1/IO05RSB0 (io), A5 IO14RSB0 (io), A6 IO18RSB0 (io), A7 IO26RSB0 (io), A8 IO29RSB0 (io), A9 IO36RSB0 (io), A10 GBC0/IO54RSB0 (io), A11 GBB0/IO56RSB0 (io), A12 GBB1/IO57RSB0 (io), A13 GBA1/IO59RSB0 (io), B3 GAA1/IO01RSB0 (io), B4 GAB1/IO03RSB0 (io), B6 IO17RSB0 (io), B7 IO25RSB0 (io), B8 IO34RSB0 (io), B9 IO39RSB0 (io), B11 GBC1/IO55RSB0 (io), B12 GBA0/IO58RSB0 (io), C5 GAB0/IO02RSB0 (io), C6 IO15RSB0 (io), C8 IO31RSB0 (io), C9 IO44RSB0 (io), C10 IO49RSB0 (io), D5 IO11RSB0 (io), D6 IO20RSB0 (io), D7 IO23RSB0 (io), D8 IO28RSB0 (io), D9 IO41RSB0 (io), D10 IO47RSB0 (io), E6 IO09RSB0 (io), E7 IO12RSB0 (io), E8 IO32RSB0 (io), E9 IO46RSB0 (io), E10 IO51RSB0 (io), F6 IO07RSB0 (io), F9 IO43RSB0 (io)
part B pins: B13 GBA2/IO60PPB1 (io), B14 GBB2/IO61PDB1 (io), C12 IO60NPB1 (io), C14 IO61NDB1 (io), D11 IO63PPB1 (io), D13 IO62NDB1 (io), D14 GBC2/IO62PDB1 (io), E12 IO63NPB1 (io), E14 IO64PDB1 (io), F10 IO73PDB1 (io), F11 IO73NDB1 (io), F12 IO66NDB1 (io), F13 IO66PDB1 (io), F14 IO64NDB1 (io), G10 GCC0/IO67NDB1 (io), G11 GCB1/IO68PDB1 (io), G12 GCA0/IO69NDB1 (io), G13 IO72NDB1 (io), G14 GCC2/IO72PDB1 (io), H10 GCC1/IO67PDB1 (io), H11 GCB0/IO68NDB1 (io), H12 GCA1/IO69PDB1 (io), H13 IO70NDB1 (io), H14 GCA2/IO70PDB1 (io), J10 IO75PDB1 (io), J11 GCB2/IO71PDB1 (io), J12 IO71NDB1 (io), J13 GDC1/IO77UDB1 (io), J14 GDC0/IO77VDB1 (io), K10 IO75NDB1 (io), K12 GDA1/IO79UPB1 (io), K14 GDB1/IO78UDB1 (io), L13 GDA0/IO79VPB1 (io), L14 GDB0/IO78VDB1 (io)
part C pins: J6 IO109RSB2 (io), J9 IO84RSB2 (io), K6 IO125RSB2 (io), K7 IO110RSB2 (io), K8 IO98RSB2 (io), K9 IO104RSB2 (io), L5 IO122RSB2 (io), L6 IO128RSB2 (io), L7 IO101RSB2 (io), L8 IO88RSB2 (io), L9 IO86RSB2 (io), L10 IO94RSB2 (io), M5 IO120RSB2 (io), M6 IO119RSB2 (io), M7 IO112RSB2 (io), M9 IO89RSB2 (io), M10 GDB2/IO81RSB2 (io), N3 GEC2/IO132RSB2 (io), N4 IO130RSB2 (io), N6 IO117RSB2 (io), N7 IO106RSB2 (io), N8 IO100RSB2 (io), N9 IO92RSB2 (io), P2 GEA2/IO134RSB2 (io), P3 FF/GEB2/IO133RSB2 (io), P4 IO123RSB2 (io), P5 IO116RSB2 (io), P6 IO114RSB2 (io), P7 IO107RSB2 (io), P8 IO103RSB2 (io), P9 IO95RSB2 (io), P10 IO91RSB2 (io), P11 GDC2/IO82RSB2 (io), P12 GDA2/IO80RSB2 (io)
part D pins: C1 GAC2/IO153UDB3 (io), C2 GAB2/IO154UDB3 (io), D1 IO153VDB3 (io), D2 IO154VDB3 (io), D3 GAA2/IO155UDB3 (io), D4 IO150PPB3 (io), E1 IO149PDB3 (io), E3 IO155VDB3 (io), E5 IO151USB3 (io), F1 IO149NDB3 (io), F2 IO144NPB3 (io), F3 IO148PDB3 (io), F4 IO148NDB3 (io), F5 IO150NPB3 (io), G1 GFB1/IO146PDB3 (io), G2 GFA0/IO145NDB3 (io), G3 GFA2/IO144PPB3 (io), G5 GFC0/IO147NDB3 (io), H1 GFB0/IO146NDB3 (io), H2 GFA1/IO145PDB3 (io), H4 GFB2/IO143PPB3 (io), H5 GFC1/IO147PDB3 (io), J1 GFC2/IO142PDB3 (io), J2 IO141PPB3 (io), J3 IO143NPB3 (io), J4 IO140PDB3 (io), J5 IO140NDB3 (io), K1 IO142NDB3 (io), K3 IO141NPB3 (io), K5 IO138PPB3 (io), L1 GEB1/IO136PDB3 (io), L2 GEC1/IO137PDB3 (io), L3 GEC0/IO137NDB3 (io), L4 IO138NPB3 (io), M1 GEB0/IO136NDB3 (io), M2 GEA1/IO135PPB3 (io), N1 GEA0/IO135NPB3 (io)
part E pins: M13 ~{TRST} (in), N11 TCK (in), N12 TDI (in), N14 TDO (out), P13 TMS (in)
part F pins: B1 VCCIB3 (power), B2 VMV0 (power), C4 VCCIB0 (power), C7 VCCIB0 (power), C11 VCCIB0 (power), D12 VMV1 (power), E4 VCCIB3 (power), E11 VCCIB1 (power), F7 VCC (power), F8 VCC (power), G6 VCC (power), G9 VCC (power), H6 VCC (power), H9 VCC (power), J7 VCC (power), J8 VCC (power), K4 VCCIB3 (power), K11 VCCIB1 (power), L11 VPUMP (power), L12 VJTAG (power), M4 VCCIB2 (power), M8 VCCIB2 (power), M11 VCCIB2 (power), M12 VMV2 (power), M14 VCCIB1 (power), N2 VMV3 (power)
part G pins: A1 GND (power), A14 GND (power), B5 GND (power), B10 GND (power), C3 GNDQ (power), C13 GNDQ (power), E2 GND (power), E13 GND (power), G7 GND (power), G8 GND (power), H7 GND (power), H8 GND (power), K2 GND (power), K13 GND (power), M3 GNDQ (power), N5 GND (power), N10 GND (power), N13 GNDQ (power), P1 GND (power), P14 GND (power)
part H pins: G4 VCOMPLF (power), H3 VCCPLF (power)
part A text: BANK 0
part B text: BANK 1
part C text: BANK 2
part D text: BANK 3

## AGL400V2-CSG196
designator U?
IGLOO Low-Power Flash 1.2/1.5V FPGA with Flash*Freeze, 143 User IOs, 400K System Gates, 54Kbits RAM, 1Kbit Flash ROM, 1 PLL, 196-Pin CSP, Commercial Grade, Pb-Free; DatasheetVersion: v2.0, Nov-2009; PackageVersion: rev40, Jun-2011; PackageReference: CS196; PackageDescription: 196-Ball Chip Scale Ball Grid Array 0.5 mm Pitch (CS196); Code_JEDEC: MO-195-BE; ComponentLink1Description: Manufacturer URL; ComponentLink1URL: http://www.actel.com/; ComponentLink2Description: IGLOO Datasheet; ComponentLink2URL: http://www.actel.com/documents/IGLOO_DS.pdf; ComponentLink3Description: Package Mechanical Drawings; ComponentLink3URL: http://www.actel.com/documents/PckgMechDrwngs.pdf; ComponentLink4Description: IGLOO Documents; ComponentLink4URL: http://www.actel.com/products/igloo/docs.aspx
footprint CS196 (BGA, 196-Leads, Body 8x8mm, Pitch 0.5mm)
part A pins: A2 GAA0/IO00RSB0 (io), A3 GAC0/IO04RSB0 (io), A4 GAC1/IO05RSB0 (io), A5 IO14RSB0 (io), A6 IO18RSB0 (io), A7 IO26RSB0 (io), A8 IO29RSB0 (io), A9 IO36RSB0 (io), A10 GBC0/IO54RSB0 (io), A11 GBB0/IO56RSB0 (io), A12 GBB1/IO57RSB0 (io), A13 GBA1/IO59RSB0 (io), B3 GAA1/IO01RSB0 (io), B4 GAB1/IO03RSB0 (io), B6 IO17RSB0 (io), B7 IO25RSB0 (io), B8 IO34RSB0 (io), B9 IO39RSB0 (io), B11 GBC1/IO55RSB0 (io), B12 GBA0/IO58RSB0 (io), C5 GAB0/IO02RSB0 (io), C6 IO15RSB0 (io), C8 IO31RSB0 (io), C9 IO44RSB0 (io), C10 IO49RSB0 (io), D5 IO11RSB0 (io), D6 IO20RSB0 (io), D7 IO23RSB0 (io), D8 IO28RSB0 (io), D9 IO41RSB0 (io), D10 IO47RSB0 (io), E6 IO09RSB0 (io), E7 IO12RSB0 (io), E8 IO32RSB0 (io), E9 IO46RSB0 (io), E10 IO51RSB0 (io), F6 IO07RSB0 (io), F9 IO43RSB0 (io)
part B pins: B13 GBA2/IO60PPB1 (io), B14 GBB2/IO61PDB1 (io), C12 IO60NPB1 (io), C14 IO61NDB1 (io), D11 IO63PPB1 (io), D13 IO62NDB1 (io), D14 GBC2/IO62PDB1 (io), E12 IO63NPB1 (io), E14 IO64PDB1 (io), F10 IO73PDB1 (io), F11 IO73NDB1 (io), F12 IO66NDB1 (io), F13 IO66PDB1 (io), F14 IO64NDB1 (io), G10 GCC0/IO67NDB1 (io), G11 GCB1/IO68PDB1 (io), G12 GCA0/IO69NDB1 (io), G13 IO72NDB1 (io), G14 GCC2/IO72PDB1 (io), H10 GCC1/IO67PDB1 (io), H11 GCB0/IO68NDB1 (io), H12 GCA1/IO69PDB1 (io), H13 IO70NDB1 (io), H14 GCA2/IO70PDB1 (io), J10 IO75PDB1 (io), J11 GCB2/IO71PDB1 (io), J12 IO71NDB1 (io), J13 GDC1/IO77UDB1 (io), J14 GDC0/IO77VDB1 (io), K10 IO75NDB1 (io), K12 GDA1/IO79UPB1 (io), K14 GDB1/IO78UDB1 (io), L13 GDA0/IO79VPB1 (io), L14 GDB0/IO78VDB1 (io)
part C pins: J6 IO109RSB2 (io), J9 IO84RSB2 (io), K6 IO125RSB2 (io), K7 IO110RSB2 (io), K8 IO98RSB2 (io), K9 IO104RSB2 (io), L5 IO122RSB2 (io), L6 IO128RSB2 (io), L7 IO101RSB2 (io), L8 IO88RSB2 (io), L9 IO86RSB2 (io), L10 IO94RSB2 (io), M5 IO120RSB2 (io), M6 IO119RSB2 (io), M7 IO112RSB2 (io), M9 IO89RSB2 (io), M10 GDB2/IO81RSB2 (io), N3 GEC2/IO132RSB2 (io), N4 IO130RSB2 (io), N6 IO117RSB2 (io), N7 IO106RSB2 (io), N8 IO100RSB2 (io), N9 IO92RSB2 (io), P2 GEA2/IO134RSB2 (io), P3 FF/GEB2/IO133RSB2 (io), P4 IO123RSB2 (io), P5 IO116RSB2 (io), P6 IO114RSB2 (io), P7 IO107RSB2 (io), P8 IO103RSB2 (io), P9 IO95RSB2 (io), P10 IO91RSB2 (io), P11 GDC2/IO82RSB2 (io), P12 GDA2/IO80RSB2 (io)
part D pins: C1 GAC2/IO153UDB3 (io), C2 GAB2/IO154UDB3 (io), D1 IO153VDB3 (io), D2 IO154VDB3 (io), D3 GAA2/IO155UDB3 (io), D4 IO150PPB3 (io), E1 IO149PDB3 (io), E3 IO155VDB3 (io), E5 IO151USB3 (io), F1 IO149NDB3 (io), F2 IO144NPB3 (io), F3 IO148PDB3 (io), F4 IO148NDB3 (io), F5 IO150NPB3 (io), G1 GFB1/IO146PDB3 (io), G2 GFA0/IO145NDB3 (io), G3 GFA2/IO144PPB3 (io), G5 GFC0/IO147NDB3 (io), H1 GFB0/IO146NDB3 (io), H2 GFA1/IO145PDB3 (io), H4 GFB2/IO143PPB3 (io), H5 GFC1/IO147PDB3 (io), J1 GFC2/IO142PDB3 (io), J2 IO141PPB3 (io), J3 IO143NPB3 (io), J4 IO140PDB3 (io), J5 IO140NDB3 (io), K1 IO142NDB3 (io), K3 IO141NPB3 (io), K5 IO138PPB3 (io), L1 GEB1/IO136PDB3 (io), L2 GEC1/IO137PDB3 (io), L3 GEC0/IO137NDB3 (io), L4 IO138NPB3 (io), M1 GEB0/IO136NDB3 (io), M2 GEA1/IO135PPB3 (io), N1 GEA0/IO135NPB3 (io)
part E pins: M13 ~{TRST} (in), N11 TCK (in), N12 TDI (in), N14 TDO (out), P13 TMS (in)
part F pins: B1 VCCIB3 (power), B2 VMV0 (power), C4 VCCIB0 (power), C7 VCCIB0 (power), C11 VCCIB0 (power), D12 VMV1 (power), E4 VCCIB3 (power), E11 VCCIB1 (power), F7 VCC (power), F8 VCC (power), G6 VCC (power), G9 VCC (power), H6 VCC (power), H9 VCC (power), J7 VCC (power), J8 VCC (power), K4 VCCIB3 (power), K11 VCCIB1 (power), L11 VPUMP (power), L12 VJTAG (power), M4 VCCIB2 (power), M8 VCCIB2 (power), M11 VCCIB2 (power), M12 VMV2 (power), M14 VCCIB1 (power), N2 VMV3 (power)
part G pins: A1 GND (power), A14 GND (power), B5 GND (power), B10 GND (power), C3 GNDQ (power), C13 GNDQ (power), E2 GND (power), E13 GND (power), G7 GND (power), G8 GND (power), H7 GND (power), H8 GND (power), K2 GND (power), K13 GND (power), M3 GNDQ (power), N5 GND (power), N10 GND (power), N13 GNDQ (power), P1 GND (power), P14 GND (power)
part H pins: G4 VCOMPLF (power), H3 VCCPLF (power)
part A text: BANK 0
part B text: BANK 1
part C text: BANK 2
part D text: BANK 3

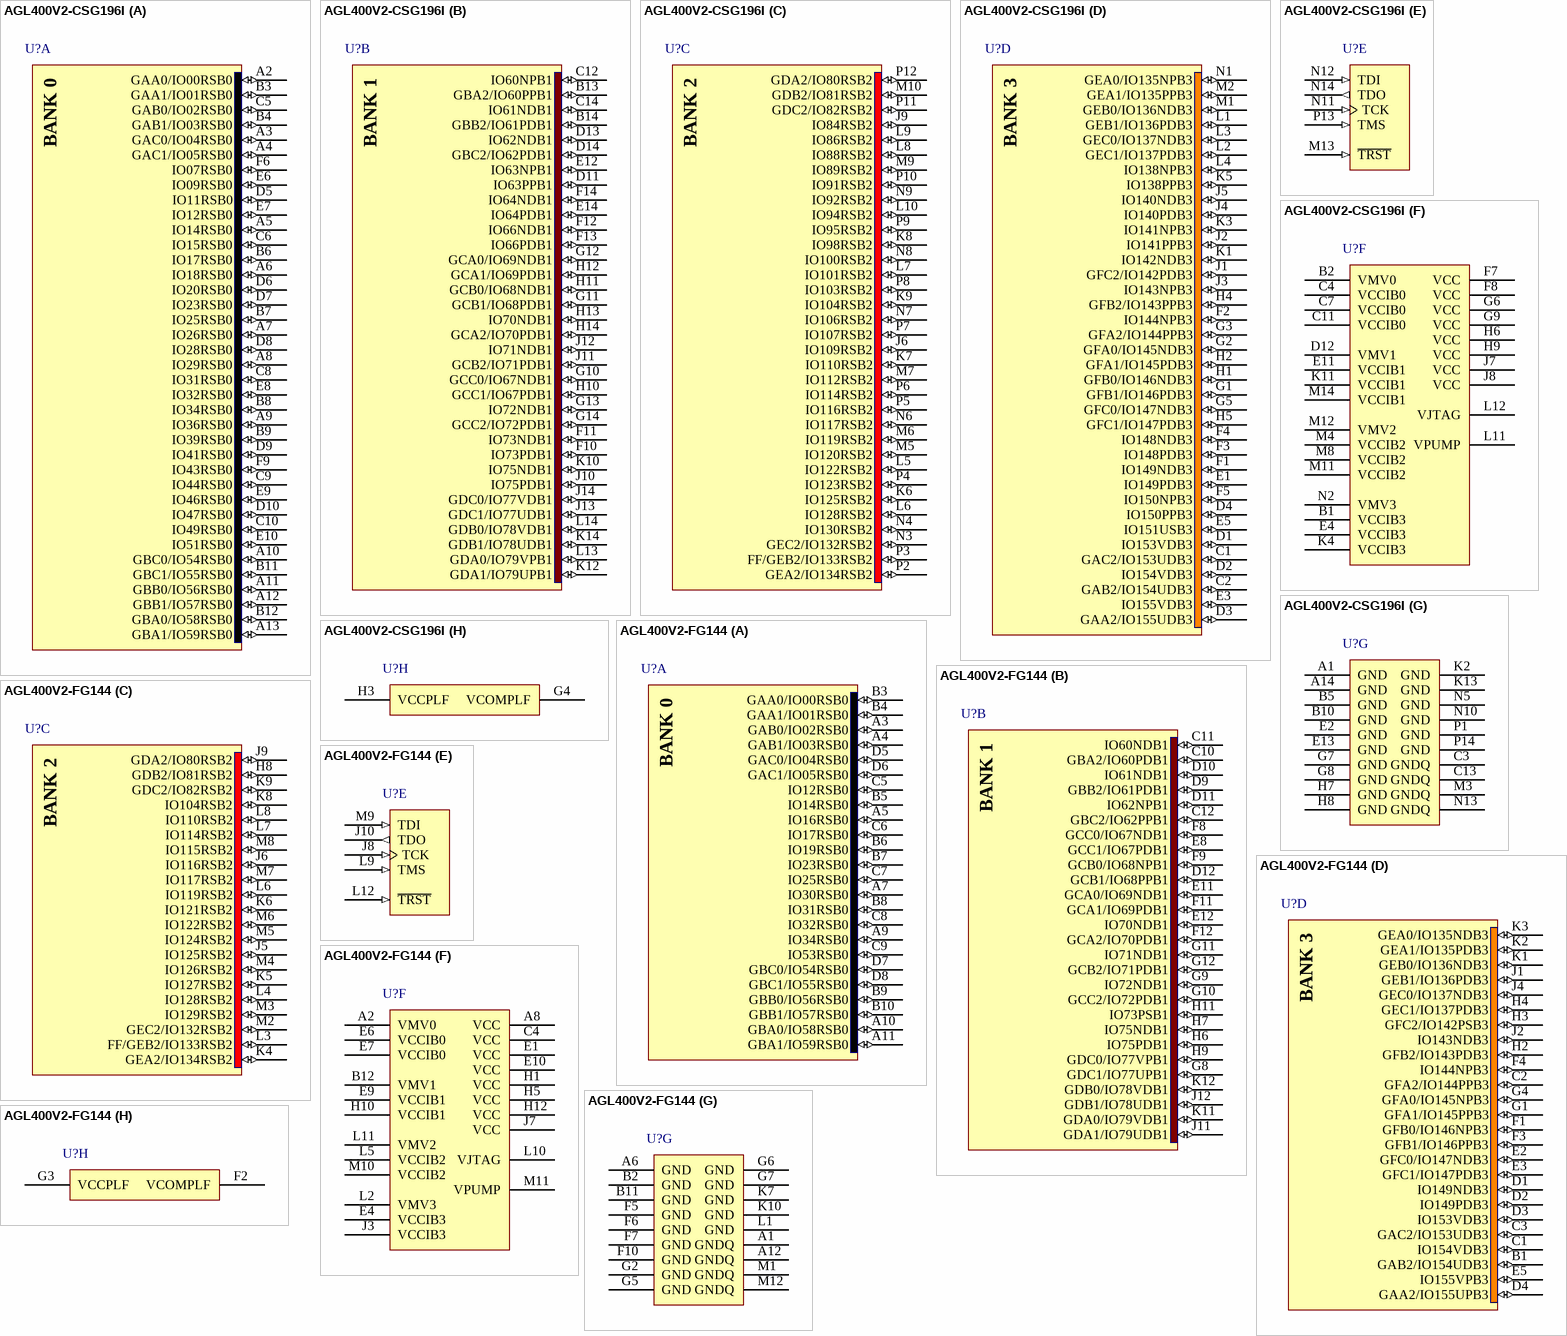
[diagram p66: symbols AGL400V2-CSG196I to AGL400V2-FG144]

## AGL400V2-CSG196I
designator U?
IGLOO Low-Power Flash 1.2/1.5V FPGA with Flash*Freeze, 143 User IOs, 400K System Gates, 54Kbits RAM, 1Kbit Flash ROM, 1 PLL, 196-Pin CSP, Industrial Grade, Pb-Free; DatasheetVersion: v2.0, Nov-2009; PackageVersion: rev40, Jun-2011; PackageReference: CS196; PackageDescription: 196-Ball Chip Scale Ball Grid Array 0.5 mm Pitch (CS196); Code_JEDEC: MO-195-BE; ComponentLink1Description: Manufacturer URL; ComponentLink1URL: http://www.actel.com/; ComponentLink2Description: IGLOO Datasheet; ComponentLink2URL: http://www.actel.com/documents/IGLOO_DS.pdf; ComponentLink3Description: Package Mechanical Drawings; ComponentLink3URL: http://www.actel.com/documents/PckgMechDrwngs.pdf; ComponentLink4Description: IGLOO Documents; ComponentLink4URL: http://www.actel.com/products/igloo/docs.aspx
footprint CS196 (BGA, 196-Leads, Body 8x8mm, Pitch 0.5mm)
part A pins: A2 GAA0/IO00RSB0 (io), A3 GAC0/IO04RSB0 (io), A4 GAC1/IO05RSB0 (io), A5 IO14RSB0 (io), A6 IO18RSB0 (io), A7 IO26RSB0 (io), A8 IO29RSB0 (io), A9 IO36RSB0 (io), A10 GBC0/IO54RSB0 (io), A11 GBB0/IO56RSB0 (io), A12 GBB1/IO57RSB0 (io), A13 GBA1/IO59RSB0 (io), B3 GAA1/IO01RSB0 (io), B4 GAB1/IO03RSB0 (io), B6 IO17RSB0 (io), B7 IO25RSB0 (io), B8 IO34RSB0 (io), B9 IO39RSB0 (io), B11 GBC1/IO55RSB0 (io), B12 GBA0/IO58RSB0 (io), C5 GAB0/IO02RSB0 (io), C6 IO15RSB0 (io), C8 IO31RSB0 (io), C9 IO44RSB0 (io), C10 IO49RSB0 (io), D5 IO11RSB0 (io), D6 IO20RSB0 (io), D7 IO23RSB0 (io), D8 IO28RSB0 (io), D9 IO41RSB0 (io), D10 IO47RSB0 (io), E6 IO09RSB0 (io), E7 IO12RSB0 (io), E8 IO32RSB0 (io), E9 IO46RSB0 (io), E10 IO51RSB0 (io), F6 IO07RSB0 (io), F9 IO43RSB0 (io)
part B pins: B13 GBA2/IO60PPB1 (io), B14 GBB2/IO61PDB1 (io), C12 IO60NPB1 (io), C14 IO61NDB1 (io), D11 IO63PPB1 (io), D13 IO62NDB1 (io), D14 GBC2/IO62PDB1 (io), E12 IO63NPB1 (io), E14 IO64PDB1 (io), F10 IO73PDB1 (io), F11 IO73NDB1 (io), F12 IO66NDB1 (io), F13 IO66PDB1 (io), F14 IO64NDB1 (io), G10 GCC0/IO67NDB1 (io), G11 GCB1/IO68PDB1 (io), G12 GCA0/IO69NDB1 (io), G13 IO72NDB1 (io), G14 GCC2/IO72PDB1 (io), H10 GCC1/IO67PDB1 (io), H11 GCB0/IO68NDB1 (io), H12 GCA1/IO69PDB1 (io), H13 IO70NDB1 (io), H14 GCA2/IO70PDB1 (io), J10 IO75PDB1 (io), J11 GCB2/IO71PDB1 (io), J12 IO71NDB1 (io), J13 GDC1/IO77UDB1 (io), J14 GDC0/IO77VDB1 (io), K10 IO75NDB1 (io), K12 GDA1/IO79UPB1 (io), K14 GDB1/IO78UDB1 (io), L13 GDA0/IO79VPB1 (io), L14 GDB0/IO78VDB1 (io)
part C pins: J6 IO109RSB2 (io), J9 IO84RSB2 (io), K6 IO125RSB2 (io), K7 IO110RSB2 (io), K8 IO98RSB2 (io), K9 IO104RSB2 (io), L5 IO122RSB2 (io), L6 IO128RSB2 (io), L7 IO101RSB2 (io), L8 IO88RSB2 (io), L9 IO86RSB2 (io), L10 IO94RSB2 (io), M5 IO120RSB2 (io), M6 IO119RSB2 (io), M7 IO112RSB2 (io), M9 IO89RSB2 (io), M10 GDB2/IO81RSB2 (io), N3 GEC2/IO132RSB2 (io), N4 IO130RSB2 (io), N6 IO117RSB2 (io), N7 IO106RSB2 (io), N8 IO100RSB2 (io), N9 IO92RSB2 (io), P2 GEA2/IO134RSB2 (io), P3 FF/GEB2/IO133RSB2 (io), P4 IO123RSB2 (io), P5 IO116RSB2 (io), P6 IO114RSB2 (io), P7 IO107RSB2 (io), P8 IO103RSB2 (io), P9 IO95RSB2 (io), P10 IO91RSB2 (io), P11 GDC2/IO82RSB2 (io), P12 GDA2/IO80RSB2 (io)
part D pins: C1 GAC2/IO153UDB3 (io), C2 GAB2/IO154UDB3 (io), D1 IO153VDB3 (io), D2 IO154VDB3 (io), D3 GAA2/IO155UDB3 (io), D4 IO150PPB3 (io), E1 IO149PDB3 (io), E3 IO155VDB3 (io), E5 IO151USB3 (io), F1 IO149NDB3 (io), F2 IO144NPB3 (io), F3 IO148PDB3 (io), F4 IO148NDB3 (io), F5 IO150NPB3 (io), G1 GFB1/IO146PDB3 (io), G2 GFA0/IO145NDB3 (io), G3 GFA2/IO144PPB3 (io), G5 GFC0/IO147NDB3 (io), H1 GFB0/IO146NDB3 (io), H2 GFA1/IO145PDB3 (io), H4 GFB2/IO143PPB3 (io), H5 GFC1/IO147PDB3 (io), J1 GFC2/IO142PDB3 (io), J2 IO141PPB3 (io), J3 IO143NPB3 (io), J4 IO140PDB3 (io), J5 IO140NDB3 (io), K1 IO142NDB3 (io), K3 IO141NPB3 (io), K5 IO138PPB3 (io), L1 GEB1/IO136PDB3 (io), L2 GEC1/IO137PDB3 (io), L3 GEC0/IO137NDB3 (io), L4 IO138NPB3 (io), M1 GEB0/IO136NDB3 (io), M2 GEA1/IO135PPB3 (io), N1 GEA0/IO135NPB3 (io)
part E pins: M13 ~{TRST} (in), N11 TCK (in), N12 TDI (in), N14 TDO (out), P13 TMS (in)
part F pins: B1 VCCIB3 (power), B2 VMV0 (power), C4 VCCIB0 (power), C7 VCCIB0 (power), C11 VCCIB0 (power), D12 VMV1 (power), E4 VCCIB3 (power), E11 VCCIB1 (power), F7 VCC (power), F8 VCC (power), G6 VCC (power), G9 VCC (power), H6 VCC (power), H9 VCC (power), J7 VCC (power), J8 VCC (power), K4 VCCIB3 (power), K11 VCCIB1 (power), L11 VPUMP (power), L12 VJTAG (power), M4 VCCIB2 (power), M8 VCCIB2 (power), M11 VCCIB2 (power), M12 VMV2 (power), M14 VCCIB1 (power), N2 VMV3 (power)
part G pins: A1 GND (power), A14 GND (power), B5 GND (power), B10 GND (power), C3 GNDQ (power), C13 GNDQ (power), E2 GND (power), E13 GND (power), G7 GND (power), G8 GND (power), H7 GND (power), H8 GND (power), K2 GND (power), K13 GND (power), M3 GNDQ (power), N5 GND (power), N10 GND (power), N13 GNDQ (power), P1 GND (power), P14 GND (power)
part H pins: G4 VCOMPLF (power), H3 VCCPLF (power)
part A text: BANK 0
part B text: BANK 1
part C text: BANK 2
part D text: BANK 3

## AGL400V2-FG144
designator U?
IGLOO Low-Power Flash 1.2/1.5V FPGA with Flash*Freeze, 97 User IOs, 400K System Gates, 54Kbits RAM, 1Kbit Flash ROM, 1 PLL, 144-Pin FBGA, Commercial Grade; DatasheetVersion: v2.0, Nov-2009; PackageVersion: rev39, Aug-2010; PackageReference: FG144; PackageDescription: 144-Ball Fine Pitch Plastic Ball Grid Array (FG144); Code_JEDEC: MO-192-DAD-1; ComponentLink1Description: Manufacturer URL; ComponentLink1URL: http://www.actel.com/; ComponentLink2Description: IGLOO Datasheet; ComponentLink2URL: http://www.actel.com/documents/IGLOO_DS.pdf; ComponentLink3Description: Package Mechanical Drawings; ComponentLink3URL: http://www.actel.com/documents/PckgMechDrwngs.pdf; ComponentLink4Description: IGLOO Documents; ComponentLink4URL: http://www.actel.com/products/igloo/docs.aspx
footprint FG144 (BGA, 144-Leads, Body 13x13mm, Pitch 1mm)
part A pins: A3 GAB0/IO02RSB0 (io), A4 GAB1/IO03RSB0 (io), A5 IO16RSB0 (io), A7 IO30RSB0 (io), A9 IO34RSB0 (io), A10 GBA0/IO58RSB0 (io), A11 GBA1/IO59RSB0 (io), B3 GAA0/IO00RSB0 (io), B4 GAA1/IO01RSB0 (io), B5 IO14RSB0 (io), B6 IO19RSB0 (io), B7 IO23RSB0 (io), B8 IO31RSB0 (io), B9 GBB0/IO56RSB0 (io), B10 GBB1/IO57RSB0 (io), C5 IO12RSB0 (io), C6 IO17RSB0 (io), C7 IO25RSB0 (io), C8 IO32RSB0 (io), C9 IO53RSB0 (io), D5 GAC0/IO04RSB0 (io), D6 GAC1/IO05RSB0 (io), D7 GBC0/IO54RSB0 (io), D8 GBC1/IO55RSB0 (io)
part B pins: C10 GBA2/IO60PDB1 (io), C11 IO60NDB1 (io), C12 GBC2/IO62PPB1 (io), D9 GBB2/IO61PDB1 (io), D10 IO61NDB1 (io), D11 IO62NPB1 (io), D12 GCB1/IO68PPB1 (io), E8 GCC1/IO67PDB1 (io), E11 GCA0/IO69NDB1 (io), E12 IO70NDB1 (io), F8 GCC0/IO67NDB1 (io), F9 GCB0/IO68NPB1 (io), F11 GCA1/IO69PDB1 (io), F12 GCA2/IO70PDB1 (io), G8 GDC1/IO77UPB1 (io), G9 IO72NDB1 (io), G10 GCC2/IO72PDB1 (io), G11 IO71NDB1 (io), G12 GCB2/IO71PDB1 (io), H6 IO75PDB1 (io), H7 IO75NDB1 (io), H9 GDC0/IO77VPB1 (io), H11 IO73PSB1 (io), J11 GDA1/IO79UDB1 (io), J12 GDB1/IO78UDB1 (io), K11 GDA0/IO79VDB1 (io), K12 GDB0/IO78VDB1 (io)
part C pins: H8 GDB2/IO81RSB2 (io), J5 IO125RSB2 (io), J6 IO116RSB2 (io), J9 GDA2/IO80RSB2 (io), K4 GEA2/IO134RSB2 (io), K5 IO127RSB2 (io), K6 IO121RSB2 (io), K8 IO104RSB2 (io), K9 GDC2/IO82RSB2 (io), L3 FF/GEB2/IO133RSB2 (io), L4 IO128RSB2 (io), L6 IO119RSB2 (io), L7 IO114RSB2 (io), L8 IO110RSB2 (io), M2 GEC2/IO132RSB2 (io), M3 IO129RSB2 (io), M4 IO126RSB2 (io), M5 IO124RSB2 (io), M6 IO122RSB2 (io), M7 IO117RSB2 (io), M8 IO115RSB2 (io)
part D pins: B1 GAB2/IO154UDB3 (io), C1 IO154VDB3 (io), C2 GFA2/IO144PPB3 (io), C3 GAC2/IO153UDB3 (io), D1 IO149NDB3 (io), D2 IO149PDB3 (io), D3 IO153VDB3 (io), D4 GAA2/IO155UPB3 (io), E2 GFC0/IO147NDB3 (io), E3 GFC1/IO147PDB3 (io), E5 IO155VPB3 (io), F1 GFB0/IO146NPB3 (io), F3 GFB1/IO146PPB3 (io), F4 IO144NPB3 (io), G1 GFA1/IO145PPB3 (io), G4 GFA0/IO145NPB3 (io), H2 GFB2/IO143PDB3 (io), H3 GFC2/IO142PSB3 (io), H4 GEC1/IO137PDB3 (io), J1 GEB1/IO136PDB3 (io), J2 IO143NDB3 (io), J4 GEC0/IO137NDB3 (io), K1 GEB0/IO136NDB3 (io), K2 GEA1/IO135PDB3 (io), K3 GEA0/IO135NDB3 (io)
part E pins: J8 TCK (in), J10 TDO (out), L9 TMS (in), L12 ~{TRST} (in), M9 TDI (in)
part F pins: A2 VMV0 (power), A8 VCC (power), B12 VMV1 (power), C4 VCC (power), E1 VCC (power), E4 VCCIB3 (power), E6 VCCIB0 (power), E7 VCCIB0 (power), E9 VCCIB1 (power), E10 VCC (power), H1 VCC (power), H5 VCC (power), H10 VCCIB1 (power), H12 VCC (power), J3 VCCIB3 (power), J7 VCC (power), L2 VMV3 (power), L5 VCCIB2 (power), L10 VJTAG (power), L11 VMV2 (power), M10 VCCIB2 (power), M11 VPUMP (power)
part G pins: A1 GNDQ (power), A6 GND (power), A12 GNDQ (power), B2 GND (power), B11 GND (power), F5 GND (power), F6 GND (power), F7 GND (power), F10 GND (power), G2 GND (power), G5 GND (power), G6 GND (power), G7 GND (power), K7 GND (power), K10 GND (power), L1 GND (power), M1 GNDQ (power), M12 GNDQ (power)
part H pins: F2 VCOMPLF (power), G3 VCCPLF (power)
part A text: BANK 0
part B text: BANK 1
part C text: BANK 2
part D text: BANK 3

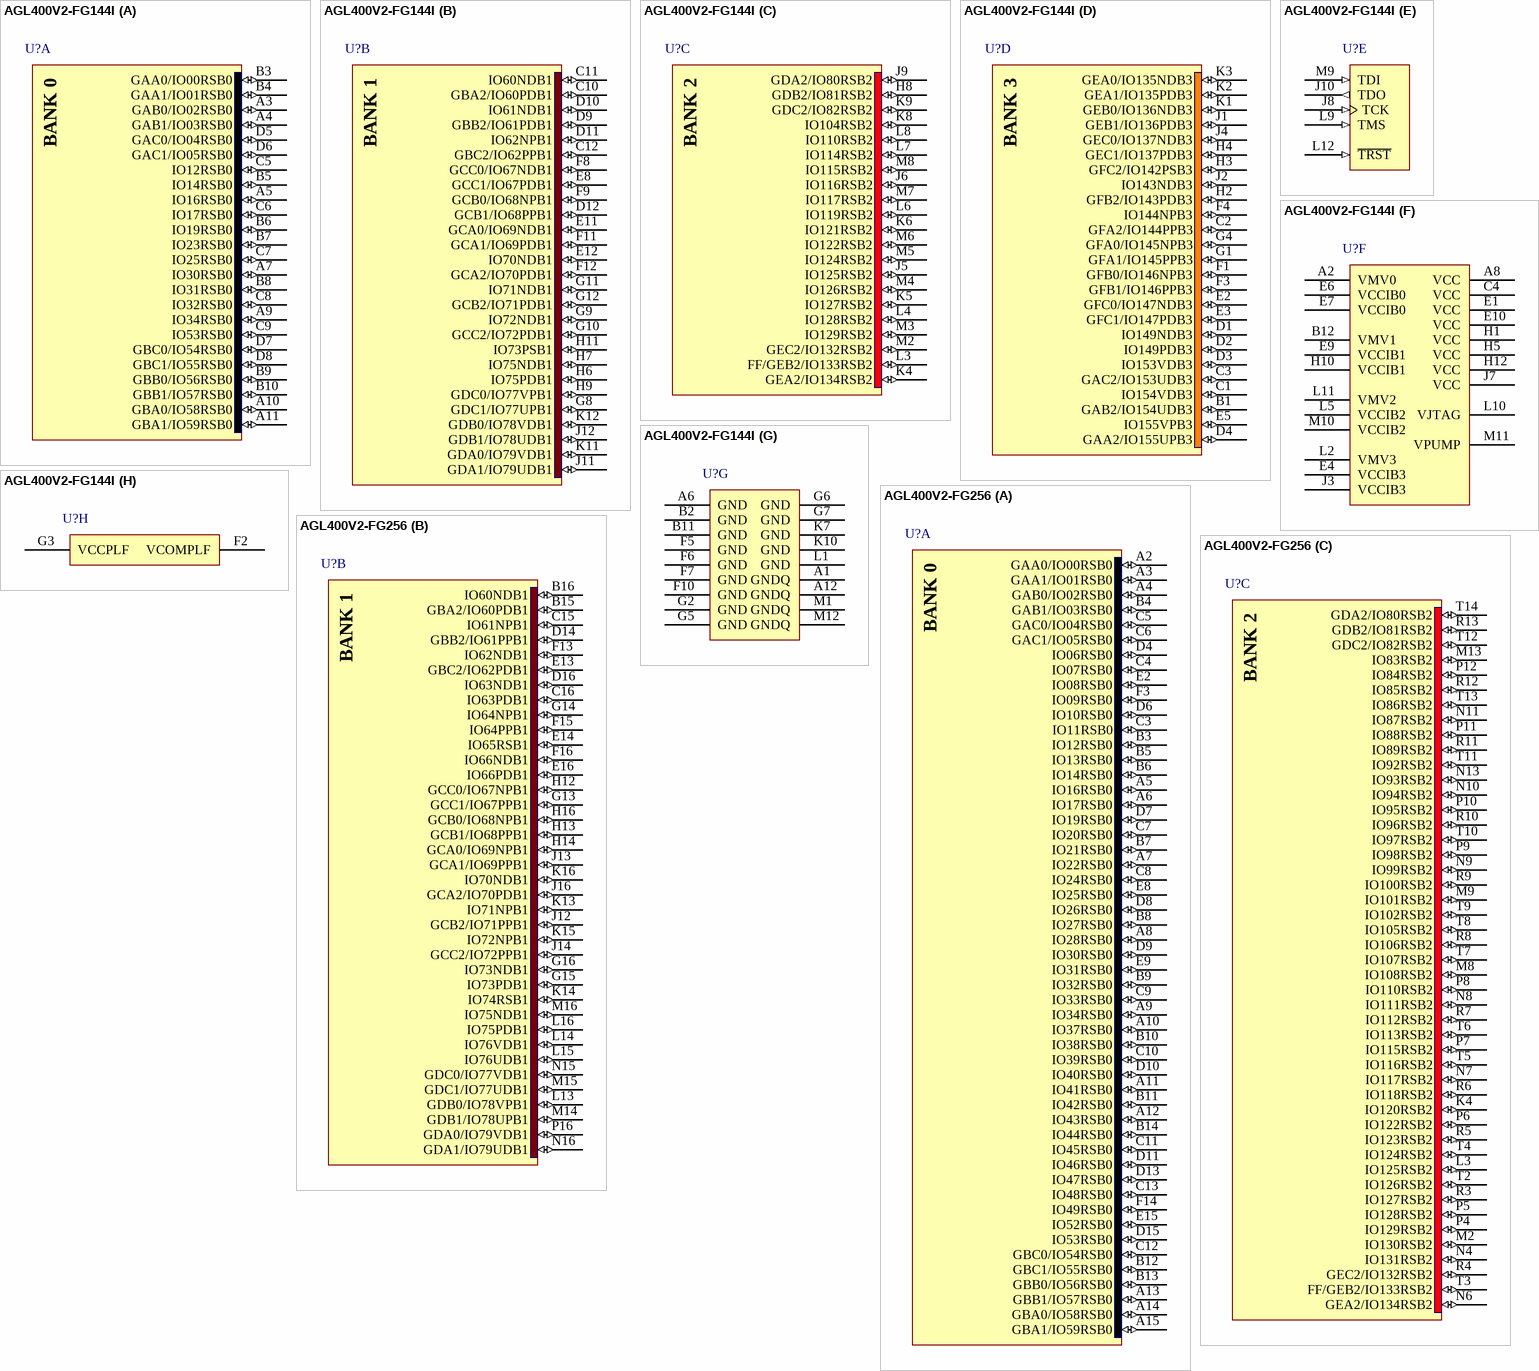
[diagram p67: symbols AGL400V2-FG144I to AGL400V2-FG256]

## AGL400V2-FG144I
designator U?
IGLOO Low-Power Flash 1.2/1.5V FPGA with Flash*Freeze, 97 User IOs, 400K System Gates, 54Kbits RAM, 1Kbit Flash ROM, 1 PLL, 144-Pin FBGA, Industrial Grade; DatasheetVersion: v2.0, Nov-2009; PackageVersion: rev39, Aug-2010; PackageReference: FG144; PackageDescription: 144-Ball Fine Pitch Plastic Ball Grid Array (FG144); Code_JEDEC: MO-192-DAD-1; ComponentLink1Description: Manufacturer URL; ComponentLink1URL: http://www.actel.com/; ComponentLink2Description: IGLOO Datasheet; ComponentLink2URL: http://www.actel.com/documents/IGLOO_DS.pdf; ComponentLink3Description: Package Mechanical Drawings; ComponentLink3URL: http://www.actel.com/documents/PckgMechDrwngs.pdf; ComponentLink4Description: IGLOO Documents; ComponentLink4URL: http://www.actel.com/products/igloo/docs.aspx
footprint FG144 (BGA, 144-Leads, Body 13x13mm, Pitch 1mm)
part A pins: A3 GAB0/IO02RSB0 (io), A4 GAB1/IO03RSB0 (io), A5 IO16RSB0 (io), A7 IO30RSB0 (io), A9 IO34RSB0 (io), A10 GBA0/IO58RSB0 (io), A11 GBA1/IO59RSB0 (io), B3 GAA0/IO00RSB0 (io), B4 GAA1/IO01RSB0 (io), B5 IO14RSB0 (io), B6 IO19RSB0 (io), B7 IO23RSB0 (io), B8 IO31RSB0 (io), B9 GBB0/IO56RSB0 (io), B10 GBB1/IO57RSB0 (io), C5 IO12RSB0 (io), C6 IO17RSB0 (io), C7 IO25RSB0 (io), C8 IO32RSB0 (io), C9 IO53RSB0 (io), D5 GAC0/IO04RSB0 (io), D6 GAC1/IO05RSB0 (io), D7 GBC0/IO54RSB0 (io), D8 GBC1/IO55RSB0 (io)
part B pins: C10 GBA2/IO60PDB1 (io), C11 IO60NDB1 (io), C12 GBC2/IO62PPB1 (io), D9 GBB2/IO61PDB1 (io), D10 IO61NDB1 (io), D11 IO62NPB1 (io), D12 GCB1/IO68PPB1 (io), E8 GCC1/IO67PDB1 (io), E11 GCA0/IO69NDB1 (io), E12 IO70NDB1 (io), F8 GCC0/IO67NDB1 (io), F9 GCB0/IO68NPB1 (io), F11 GCA1/IO69PDB1 (io), F12 GCA2/IO70PDB1 (io), G8 GDC1/IO77UPB1 (io), G9 IO72NDB1 (io), G10 GCC2/IO72PDB1 (io), G11 IO71NDB1 (io), G12 GCB2/IO71PDB1 (io), H6 IO75PDB1 (io), H7 IO75NDB1 (io), H9 GDC0/IO77VPB1 (io), H11 IO73PSB1 (io), J11 GDA1/IO79UDB1 (io), J12 GDB1/IO78UDB1 (io), K11 GDA0/IO79VDB1 (io), K12 GDB0/IO78VDB1 (io)
part C pins: H8 GDB2/IO81RSB2 (io), J5 IO125RSB2 (io), J6 IO116RSB2 (io), J9 GDA2/IO80RSB2 (io), K4 GEA2/IO134RSB2 (io), K5 IO127RSB2 (io), K6 IO121RSB2 (io), K8 IO104RSB2 (io), K9 GDC2/IO82RSB2 (io), L3 FF/GEB2/IO133RSB2 (io), L4 IO128RSB2 (io), L6 IO119RSB2 (io), L7 IO114RSB2 (io), L8 IO110RSB2 (io), M2 GEC2/IO132RSB2 (io), M3 IO129RSB2 (io), M4 IO126RSB2 (io), M5 IO124RSB2 (io), M6 IO122RSB2 (io), M7 IO117RSB2 (io), M8 IO115RSB2 (io)
part D pins: B1 GAB2/IO154UDB3 (io), C1 IO154VDB3 (io), C2 GFA2/IO144PPB3 (io), C3 GAC2/IO153UDB3 (io), D1 IO149NDB3 (io), D2 IO149PDB3 (io), D3 IO153VDB3 (io), D4 GAA2/IO155UPB3 (io), E2 GFC0/IO147NDB3 (io), E3 GFC1/IO147PDB3 (io), E5 IO155VPB3 (io), F1 GFB0/IO146NPB3 (io), F3 GFB1/IO146PPB3 (io), F4 IO144NPB3 (io), G1 GFA1/IO145PPB3 (io), G4 GFA0/IO145NPB3 (io), H2 GFB2/IO143PDB3 (io), H3 GFC2/IO142PSB3 (io), H4 GEC1/IO137PDB3 (io), J1 GEB1/IO136PDB3 (io), J2 IO143NDB3 (io), J4 GEC0/IO137NDB3 (io), K1 GEB0/IO136NDB3 (io), K2 GEA1/IO135PDB3 (io), K3 GEA0/IO135NDB3 (io)
part E pins: J8 TCK (in), J10 TDO (out), L9 TMS (in), L12 ~{TRST} (in), M9 TDI (in)
part F pins: A2 VMV0 (power), A8 VCC (power), B12 VMV1 (power), C4 VCC (power), E1 VCC (power), E4 VCCIB3 (power), E6 VCCIB0 (power), E7 VCCIB0 (power), E9 VCCIB1 (power), E10 VCC (power), H1 VCC (power), H5 VCC (power), H10 VCCIB1 (power), H12 VCC (power), J3 VCCIB3 (power), J7 VCC (power), L2 VMV3 (power), L5 VCCIB2 (power), L10 VJTAG (power), L11 VMV2 (power), M10 VCCIB2 (power), M11 VPUMP (power)
part G pins: A1 GNDQ (power), A6 GND (power), A12 GNDQ (power), B2 GND (power), B11 GND (power), F5 GND (power), F6 GND (power), F7 GND (power), F10 GND (power), G2 GND (power), G5 GND (power), G6 GND (power), G7 GND (power), K7 GND (power), K10 GND (power), L1 GND (power), M1 GNDQ (power), M12 GNDQ (power)
part H pins: F2 VCOMPLF (power), G3 VCCPLF (power)
part A text: BANK 0
part B text: BANK 1
part C text: BANK 2
part D text: BANK 3

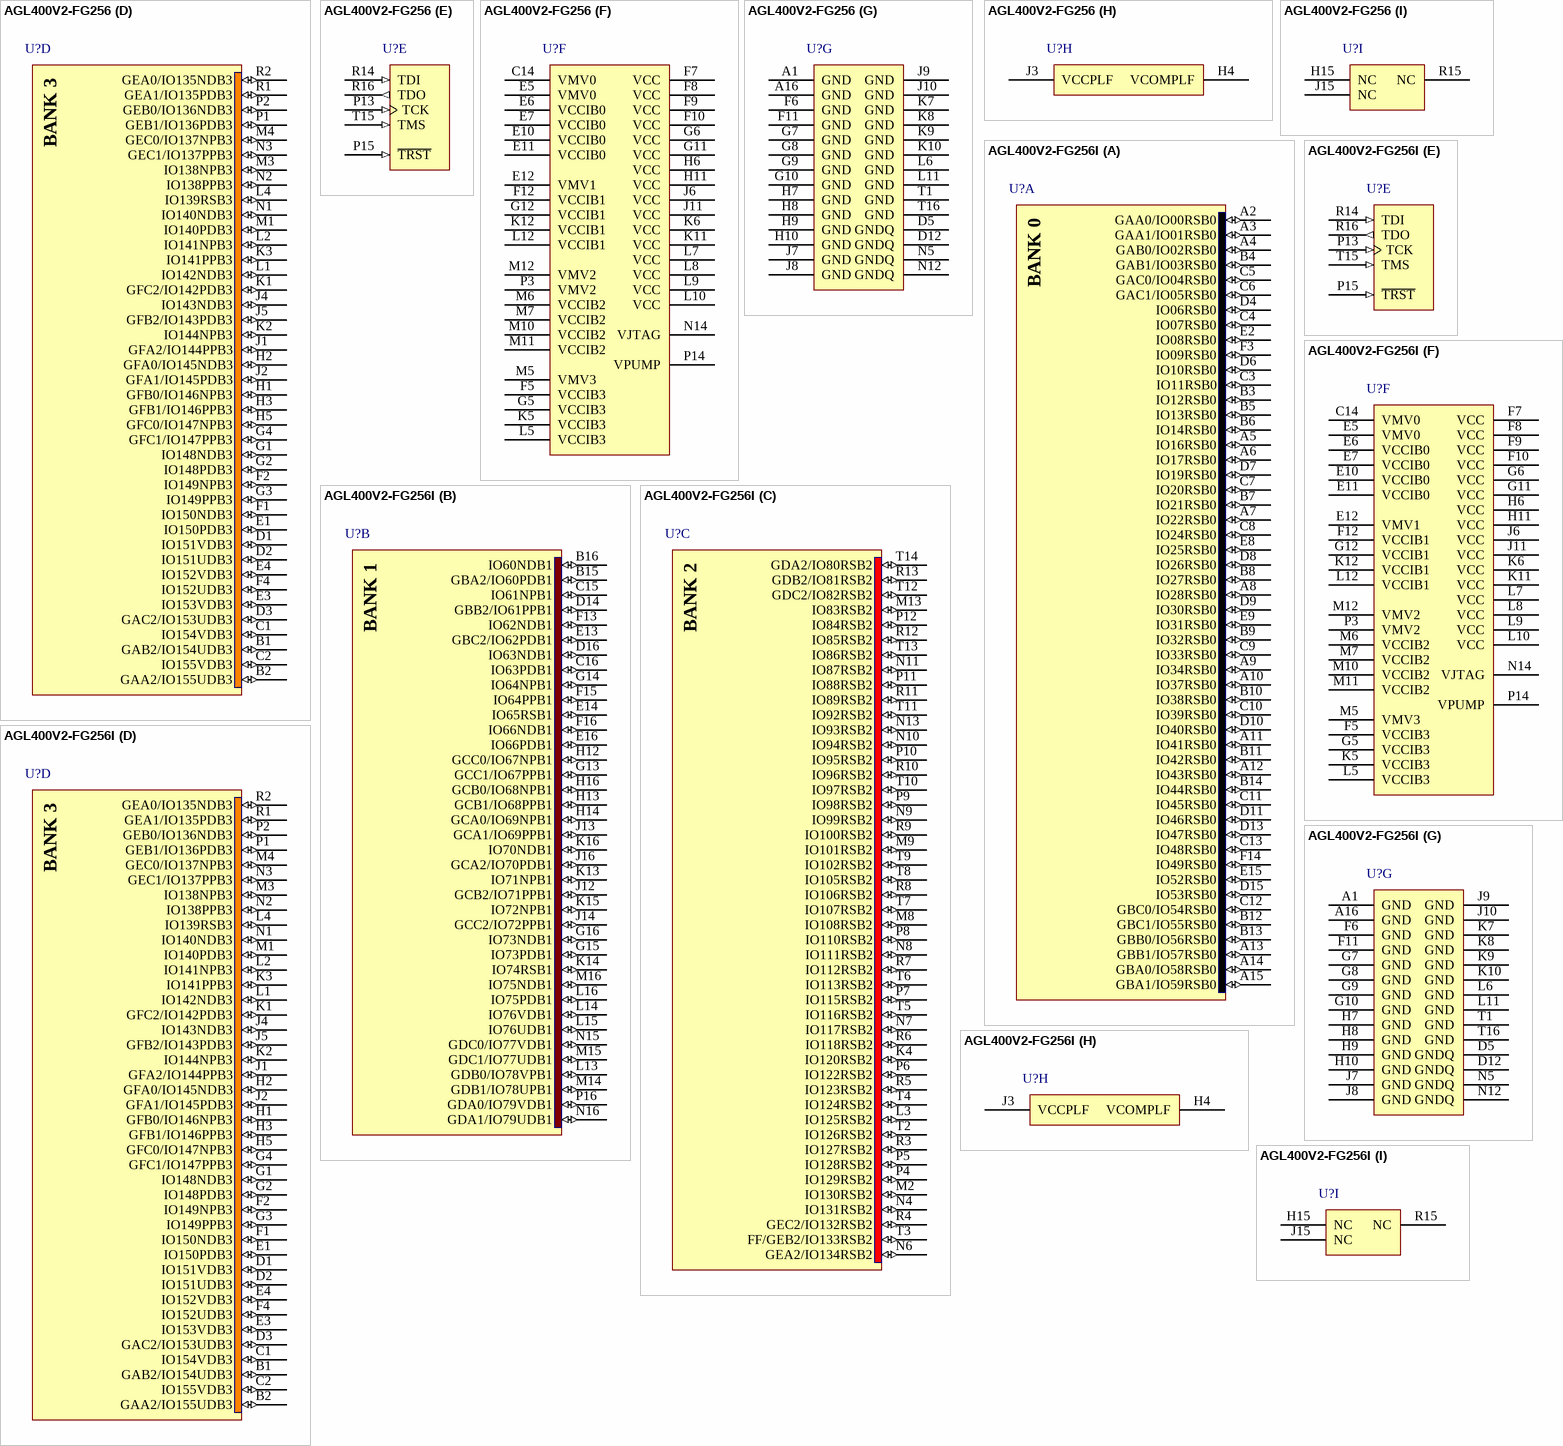
[diagram p68: symbols AGL400V2-FG256 to AGL400V2-FG256I]

## AGL400V2-FG256
designator U?
IGLOO Low-Power Flash 1.2/1.5V FPGA with Flash*Freeze, 178 User IOs, 400K System Gates, 54Kbits RAM, 1Kbit Flash ROM, 1 PLL, 256-Pin FBGA, Commercial Grade; DatasheetVersion: v2.0, Nov-2009; PackageVersion: rev39, Aug-2010; PackageReference: FG256; PackageDescription: 256-Ball Fine Pitch Plastic Ball Grid Array 1.00 mm Pitch (FG256); Code_JEDEC: MO-192-DAF-1; ComponentLink1Description: Manufacturer URL; ComponentLink1URL: http://www.actel.com/; ComponentLink2Description: IGLOO Datasheet; ComponentLink2URL: http://www.actel.com/documents/IGLOO_DS.pdf; ComponentLink3Description: Package Mechanical Drawings; ComponentLink3URL: http://www.actel.com/documents/PckgMechDrwngs.pdf; ComponentLink4Description: IGLOO Documents; ComponentLink4URL: http://www.actel.com/products/igloo/docs.aspx
footprint FG256 (BGA, 256-Leads, Body 17x17mm, Pitch 1mm)
part A pins: A2 GAA0/IO00RSB0 (io), A3 GAA1/IO01RSB0 (io), A4 GAB0/IO02RSB0 (io), A5 IO16RSB0 (io), A6 IO17RSB0 (io), A7 IO22RSB0 (io), A8 IO28RSB0 (io), A9 IO34RSB0 (io), A10 IO37RSB0 (io), A11 IO41RSB0 (io), A12 IO43RSB0 (io), A13 GBB1/IO57RSB0 (io), A14 GBA0/IO58RSB0 (io), A15 GBA1/IO59RSB0 (io), B3 IO12RSB0 (io), B4 GAB1/IO03RSB0 (io), B5 IO13RSB0 (io), B6 IO14RSB0 (io), B7 IO21RSB0 (io), B8 IO27RSB0 (io), B9 IO32RSB0 (io), B10 IO38RSB0 (io), B11 IO42RSB0 (io), B12 GBC1/IO55RSB0 (io), B13 GBB0/IO56RSB0 (io), B14 IO44RSB0 (io), C3 IO11RSB0 (io), C4 IO07RSB0 (io), C5 GAC0/IO04RSB0 (io), C6 GAC1/IO05RSB0 (io), C7 IO20RSB0 (io), C8 IO24RSB0 (io), C9 IO33RSB0 (io), C10 IO39RSB0 (io), C11 IO45RSB0 (io), C12 GBC0/IO54RSB0 (io), C13 IO48RSB0 (io), D4 IO06RSB0 (io), D6 IO10RSB0 (io), D7 IO19RSB0 (io), D8 IO26RSB0 (io), D9 IO30RSB0 (io), D10 IO40RSB0 (io), D11 IO46RSB0 (io), D13 IO47RSB0 (io), D15 IO53RSB0 (io), E2 IO08RSB0 (io), E8 IO25RSB0 (io), E9 IO31RSB0 (io), E15 IO52RSB0 (io), F3 IO09RSB0 (io), F14 IO49RSB0 (io)
part B pins: B15 GBA2/IO60PDB1 (io), B16 IO60NDB1 (io), C15 IO61NPB1 (io), C16 IO63PDB1 (io), D14 GBB2/IO61PPB1 (io), D16 IO63NDB1 (io), E13 GBC2/IO62PDB1 (io), E14 IO65RSB1 (io), E16 IO66PDB1 (io), F13 IO62NDB1 (io), F15 IO64PPB1 (io), F16 IO66NDB1 (io), G13 GCC1/IO67PPB1 (io), G14 IO64NPB1 (io), G15 IO73PDB1 (io), G16 IO73NDB1 (io), H12 GCC0/IO67NPB1 (io), H13 GCB1/IO68PPB1 (io), H14 GCA0/IO69NPB1 (io), H16 GCB0/IO68NPB1 (io), J12 GCB2/IO71PPB1 (io), J13 GCA1/IO69PPB1 (io), J14 GCC2/IO72PPB1 (io), J16 GCA2/IO70PDB1 (io), K13 IO71NPB1 (io), K14 IO74RSB1 (io), K15 IO72NPB1 (io), K16 IO70NDB1 (io), L13 GDB0/IO78VPB1 (io), L14 IO76VDB1 (io), L15 IO76UDB1 (io), L16 IO75PDB1 (io), M14 GDB1/IO78UPB1 (io), M15 GDC1/IO77UDB1 (io), M16 IO75NDB1 (io), N15 GDC0/IO77VDB1 (io), N16 GDA1/IO79UDB1 (io), P16 GDA0/IO79VDB1 (io)
part C pins: K4 IO120RSB2 (io), L3 IO125RSB2 (io), M2 IO130RSB2 (io), M8 IO108RSB2 (io), M9 IO101RSB2 (io), M13 IO83RSB2 (io), N4 IO131RSB2 (io), N6 GEA2/IO134RSB2 (io), N7 IO117RSB2 (io), N8 IO111RSB2 (io), N9 IO99RSB2 (io), N10 IO94RSB2 (io), N11 IO87RSB2 (io), N13 IO93RSB2 (io), P4 IO129RSB2 (io), P5 IO128RSB2 (io), P6 IO122RSB2 (io), P7 IO115RSB2 (io), P8 IO110RSB2 (io), P9 IO98RSB2 (io), P10 IO95RSB2 (io), P11 IO88RSB2 (io), P12 IO84RSB2 (io), R3 IO127RSB2 (io), R4 GEC2/IO132RSB2 (io), R5 IO123RSB2 (io), R6 IO118RSB2 (io), R7 IO112RSB2 (io), R8 IO106RSB2 (io), R9 IO100RSB2 (io), R10 IO96RSB2 (io), R11 IO89RSB2 (io), R12 IO85RSB2 (io), R13 GDB2/IO81RSB2 (io), T2 IO126RSB2 (io), T3 FF/GEB2/IO133RSB2 (io), T4 IO124RSB2 (io), T5 IO116RSB2 (io), T6 IO113RSB2 (io), T7 IO107RSB2 (io), T8 IO105RSB2 (io), T9 IO102RSB2 (io), T10 IO97RSB2 (io), T11 IO92RSB2 (io), T12 GDC2/IO82RSB2 (io), T13 IO86RSB2 (io), T14 GDA2/IO80RSB2 (io)
part D pins: B1 GAB2/IO154UDB3 (io), B2 GAA2/IO155UDB3 (io), C1 IO154VDB3 (io), C2 IO155VDB3 (io), D1 IO151VDB3 (io), D2 IO151UDB3 (io), D3 GAC2/IO153UDB3 (io), E1 IO150PDB3 (io), E3 IO153VDB3 (io), E4 IO152VDB3 (io), F1 IO150NDB3 (io), F2 IO149NPB3 (io), F4 IO152UDB3 (io), G1 IO148NDB3 (io), G2 IO148PDB3 (io), G3 IO149PPB3 (io), G4 GFC1/IO147PPB3 (io), H1 GFB0/IO146NPB3 (io), H2 GFA0/IO145NDB3 (io), H3 GFB1/IO146PPB3 (io), H5 GFC0/IO147NPB3 (io), J1 GFA2/IO144PPB3 (io), J2 GFA1/IO145PDB3 (io), J4 IO143NDB3 (io), J5 GFB2/IO143PDB3 (io), K1 GFC2/IO142PDB3 (io), K2 IO144NPB3 (io), K3 IO141PPB3 (io), L1 IO142NDB3 (io), L2 IO141NPB3 (io), L4 IO139RSB3 (io), M1 IO140PDB3 (io), M3 IO138NPB3 (io), M4 GEC0/IO137NPB3 (io), N1 IO140NDB3 (io), N2 IO138PPB3 (io), N3 GEC1/IO137PPB3 (io), P1 GEB1/IO136PDB3 (io), P2 GEB0/IO136NDB3 (io), R1 GEA1/IO135PDB3 (io), R2 GEA0/IO135NDB3 (io)
part E pins: P13 TCK (in), P15 ~{TRST} (in), R14 TDI (in), R16 TDO (out), T15 TMS (in)
part F pins: C14 VMV0 (power), E5 VMV0 (power), E6 VCCIB0 (power), E7 VCCIB0 (power), E10 VCCIB0 (power), E11 VCCIB0 (power), E12 VMV1 (power), F5 VCCIB3 (power), F7 VCC (power), F8 VCC (power), F9 VCC (power), F10 VCC (power), F12 VCCIB1 (power), G5 VCCIB3 (power), G6 VCC (power), G11 VCC (power), G12 VCCIB1 (power), H6 VCC (power), H11 VCC (power), J6 VCC (power), J11 VCC (power), K5 VCCIB3 (power), K6 VCC (power), K11 VCC (power), K12 VCCIB1 (power), L5 VCCIB3 (power), L7 VCC (power), L8 VCC (power), L9 VCC (power), L10 VCC (power), L12 VCCIB1 (power), M5 VMV3 (power), M6 VCCIB2 (power), M7 VCCIB2 (power), M10 VCCIB2 (power), M11 VCCIB2 (power), M12 VMV2 (power), N14 VJTAG (power), P3 VMV2 (power), P14 VPUMP (power)
part G pins: A1 GND (power), A16 GND (power), D5 GNDQ (power), D12 GNDQ (power), F6 GND (power), F11 GND (power), G7 GND (power), G8 GND (power), G9 GND (power), G10 GND (power), H7 GND (power), H8 GND (power), H9 GND (power), H10 GND (power), J7 GND (power), J8 GND (power), J9 GND (power), J10 GND (power), K7 GND (power), K8 GND (power), K9 GND (power), K10 GND (power), L6 GND (power), L11 GND (power), N5 GNDQ (power), N12 GNDQ (power), T1 GND (power), T16 GND (power)
part H pins: H4 VCOMPLF (power), J3 VCCPLF (power)
part I pins: H15 NC, J15 NC, R15 NC
part A text: BANK 0
part B text: BANK 1
part C text: BANK 2
part D text: BANK 3